# Altium integrated library microbuilder.IntLib: 530 symbols (part 3 of 7)
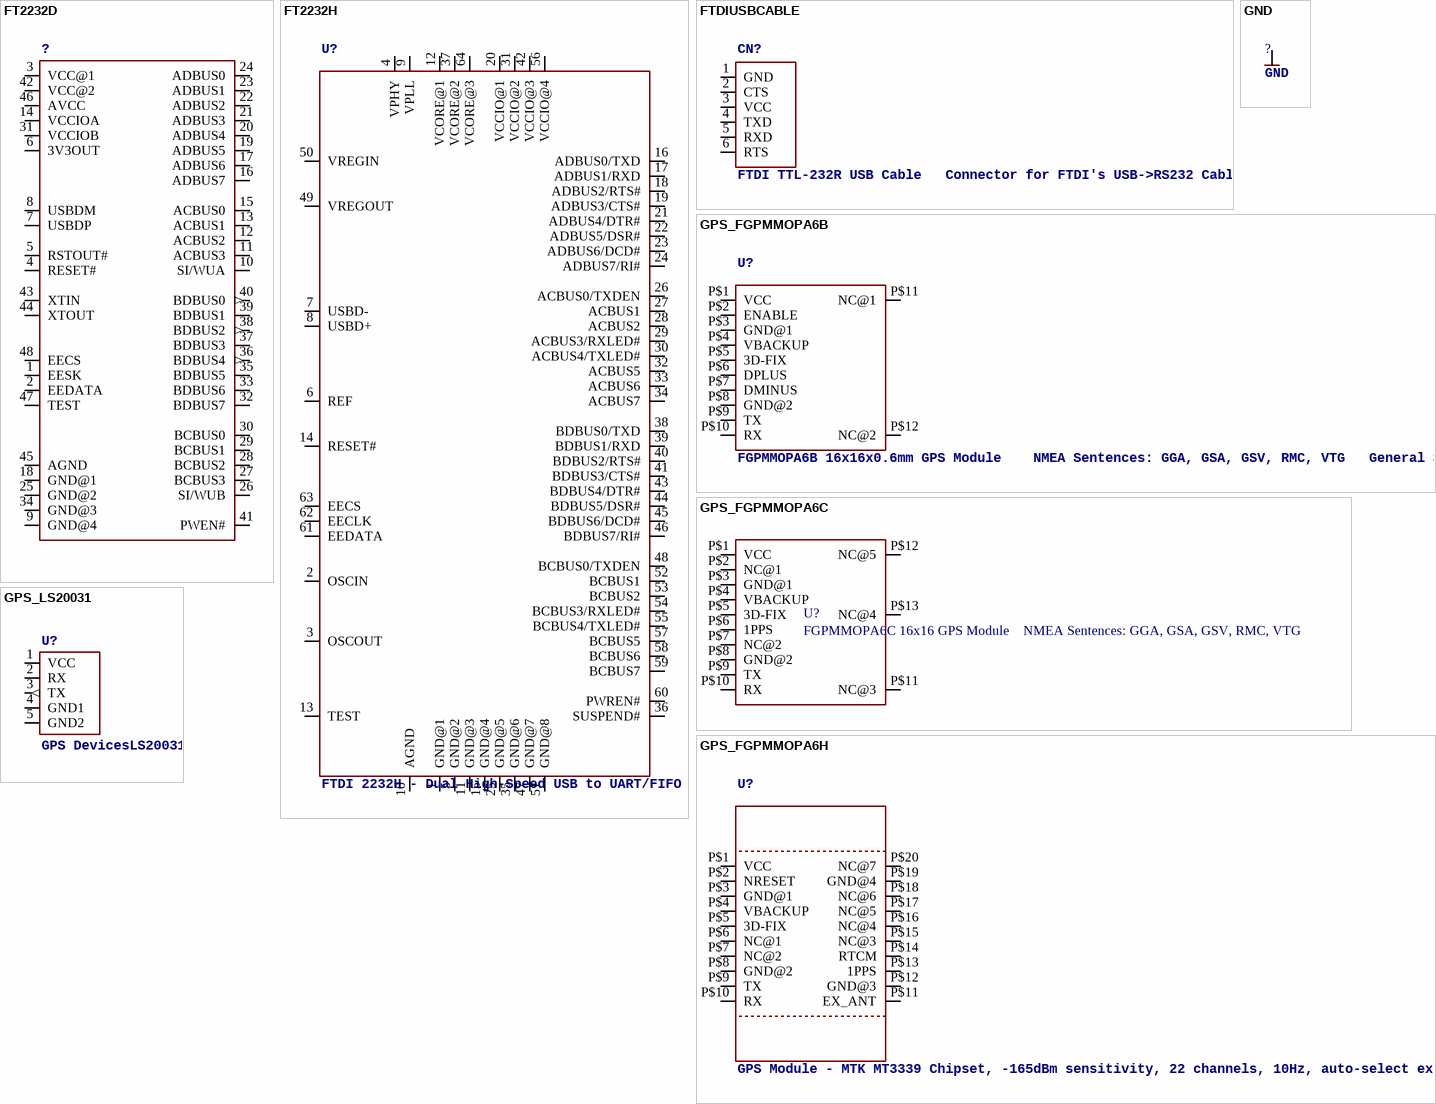
[diagram p54: symbols FT2232D to GPS_LS20031]

## FT2232H
designator U?, comment FTDI 2232H - Dual High-Speed USB to UART/FIFO
footprint LQFP64
pins: 1 GND@1, 2 OSCIN, 3 OSCOUT, 4 VPHY, 5 GND@2, 6 REF, 7 USBD-, 8 USBD+, 9 VPLL, 10 AGND, 11 GND@3, 12 VCORE@1, 13 TEST, 14 RESET#, 15 GND@4, 16 ADBUS0/TXD, 17 ADBUS1/RXD, 18 ADBUS2/RTS#, 19 ADBUS3/CTS#, 20 VCCIO@1, 21 ADBUS4/DTR#, 22 ADBUS5/DSR#, 23 ADBUS6/DCD#, 24 ADBUS7/RI#, 25 GND@5, 26 ACBUS0/TXDEN, 27 ACBUS1, 28 ACBUS2, 29 ACBUS3/RXLED#, 30 ACBUS4/TXLED#, 31 VCCIO@2, 32 ACBUS5, 33 ACBUS6, 34 ACBUS7, 35 GND@6, 36 SUSPEND#, 37 VCORE@2, 38 BDBUS0/TXD, 39 BDBUS1/RXD, 40 BDBUS2/RTS#, 41 BDBUS3/CTS#, 42 VCCIO@3, 43 BDBUS4/DTR#, 44 BDBUS5/DSR#, 45 BDBUS6/DCD#, 46 BDBUS7/RI#, 47 GND@7, 48 BCBUS0/TXDEN, 49 VREGOUT, 50 VREGIN, 51 GND@8, 52 BCBUS1, 53 BCBUS2, 54 BCBUS3/RXLED#, 55 BCBUS4/TXLED#, 56 VCCIO@4, 57 BCBUS5, 58 BCBUS6, 59 BCBUS7, 60 PWREN#, 61 EEDATA, 62 EECLK, 63 EECS, 64 VCORE@3

## FTDIUSBCABLE
designator CN?, comment FTDI TTL-232R USB Cable   Connector for FTDI's USB->RS232 Cable
footprint 1X06_ROUND
pins: 1 GND, 2 CTS, 3 VCC, 4 TXD, 5 RXD, 6 RTS

## GND
designator ?
pins: ?1 GND (oe)

## GPS_FGPMMOPA6B
designator U?, comment FGPMMOPA6B 16x16x0.6mm GPS Module    NMEA Sentences: GGA, GSA, GSV, RMC, VTG   General Specifications Chipset: MTK MT3329  Baud Rate: 9600bps (default)  Update Rate: 1Hz (default)  Cold Start: ~35s  Operating Temp: -40 to 85°C       DC Characteristics Supply Voltage: 3.2-5.0V  Backup Battery Voltage: 2.0-4.3V  Digital Logic (UART): 3.3V  I(Tracking): 42mA  I(Acquisition): 53mA  I(BackupBattery): 10uA
footprint FGPMMOPA6B
pins: P$1 VCC, P$2 ENABLE, P$3 GND@1, P$4 VBACKUP, P$5 3D-FIX, P$6 DPLUS, P$7 DMINUS, P$8 GND@2, P$9 TX, P$10 RX, P$11 NC@1, P$12 NC@2

## GPS_FGPMMOPA6C
designator U?, comment FGPMMOPA6C 16x16 GPS Module    NMEA Sentences: GGA, GSA, GSV, RMC, VTG
footprint FGPMMOPA6C
pins: P$1 VCC, P$2 NC@1, P$3 GND@1, P$4 VBACKUP, P$5 3D-FIX, P$6 1PPS, P$7 NC@2, P$8 GND@2, P$9 TX, P$10 RX, P$11 NC@3, P$12 NC@5, P$13 NC@4

## GPS_FGPMMOPA6H
designator U?, comment GPS Module - MTK MT3339 Chipset, -165dBm sensitivity, 22 channels, 10Hz, auto-select external antenna options
footprint FGPMMOPA6H
pins: P$1 VCC, P$2 NRESET, P$3 GND@1, P$4 VBACKUP, P$5 3D-FIX, P$6 NC@1, P$7 NC@2, P$8 GND@2, P$9 TX, P$10 RX, P$11 EX_ANT, P$12 GND@3, P$13 1PPS, P$14 RTCM, P$15 NC@3, P$16 NC@4, P$17 NC@5, P$18 NC@6, P$19 GND@4, P$20 NC@7

## GPS_LS20031
designator U?, comment GPS DevicesLS20031 - LS20031 10Hz UART GPS [Prod. ID] (Footprint for 0.1" header pins)
footprint HEADER_1X05
pins: 1 VCC (power), 2 RX, 3 TX (out), 4 GND1 (power), 5 GND2 (power)

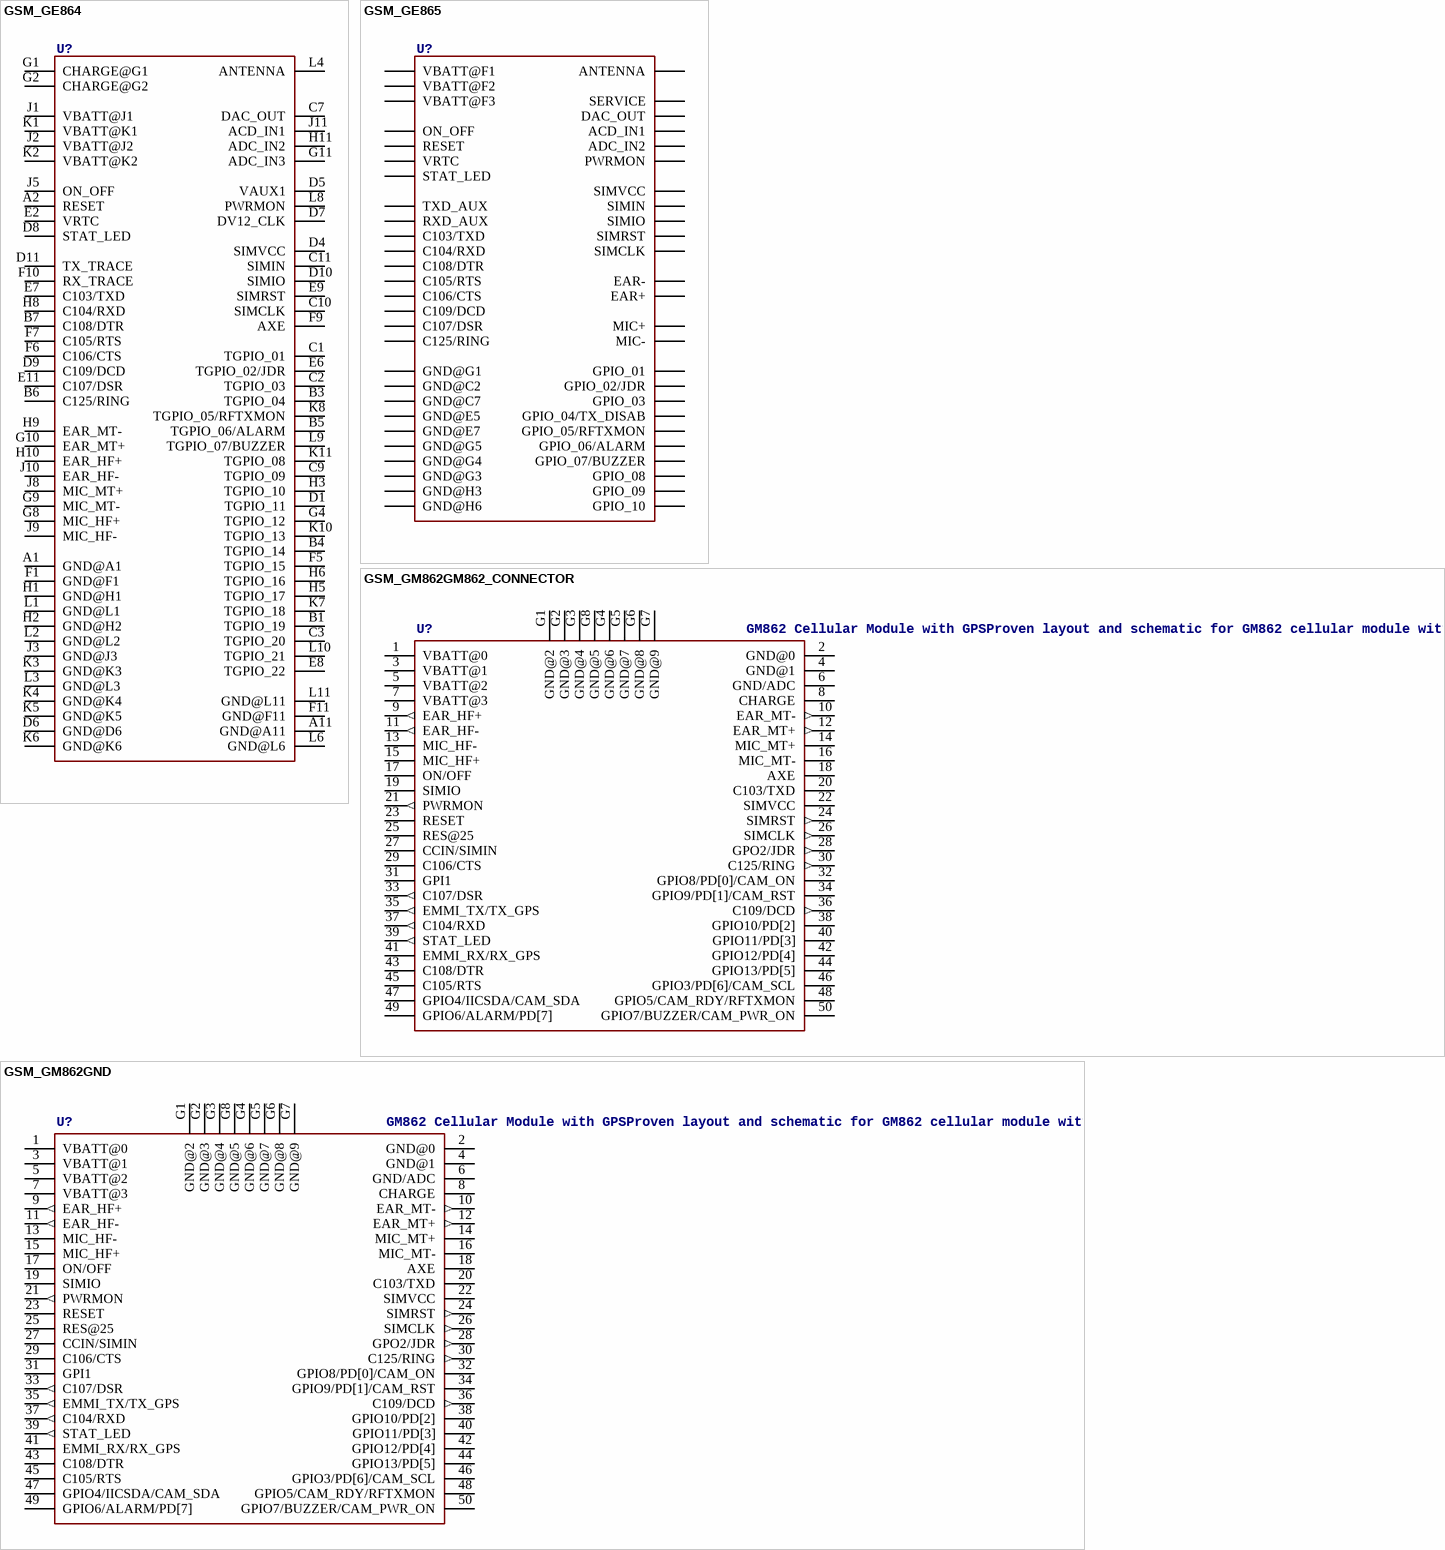
[diagram p21: symbols GSM_GE864 to GSM_GM862GND]

## GSM_GE864
designator U?
footprint GE864
pins: A1 GND@A1, A2 RESET, A11 GND@A11, B1 TGPIO_19, B3 TGPIO_04, B4 TGPIO_14, B5 TGPIO_06/ALARM, B6 C125/RING, B7 C108/DTR, C1 TGPIO_01, C2 TGPIO_03, C3 TGPIO_20, C7 DAC_OUT, C9 TGPIO_09, C10 SIMCLK, C11 SIMIN, D1 TGPIO_11, D4 SIMVCC, D5 VAUX1, D6 GND@D6, D7 DV12_CLK, D8 STAT_LED, D9 C109/DCD, D10 SIMIO, D11 TX_TRACE, E2 VRTC, E6 TGPIO_02/JDR, E7 C103/TXD, E8 TGPIO_22, E9 SIMRST, E11 C107/DSR, F1 GND@F1, F5 TGPIO_15, F6 C106/CTS, F7 C105/RTS, F9 AXE, F10 RX_TRACE, F11 GND@F11, G1 CHARGE@G1, G2 CHARGE@G2, G4 TGPIO_12, G8 MIC_HF+, G9 MIC_MT-, G10 EAR_MT+, G11 ADC_IN3, H1 GND@H1, H2 GND@H2, H3 TGPIO_10, H5 TGPIO_17, H6 TGPIO_16, H8 C104/RXD, H9 EAR_MT-, H10 EAR_HF+, H11 ADC_IN2, J1 VBATT@J1, J2 VBATT@J2, J3 GND@J3, J5 ON_OFF, J8 MIC_MT+, J9 MIC_HF-, J10 EAR_HF-, J11 ACD_IN1, K1 VBATT@K1, K2 VBATT@K2, K3 GND@K3, K4 GND@K4, K5 GND@K5, K6 GND@K6, K7 TGPIO_18, K8 TGPIO_05/RFTXMON, K10 TGPIO_13, K11 TGPIO_08, L1 GND@L1, L2 GND@L2, L3 GND@L3, L4 ANTENNA, L6 GND@L6, L8 PWRMON, L9 TGPIO_07/BUZZER, L10 TGPIO_21, L11 GND@L11

## GSM_GE865
designator U?
footprint GE865
pins: A1 C105/RTS, A2 C106/CTS, A3 C103/TXD, A4 C104/RXD, A5 SIMCLK, A6 SIMIO, A7 SIMVCC, A8 SIMRST, B1 ON_OFF, B2 C107/DSR, B3 C108/DTR, B4 C125/RING, B5 C109/DCD, B7 SIMIN, B8 MIC+, C1 RESET, C2 GND@C2, C7 GND@C7, C8 MIC-, D1 TXD_AUX, D2 GPIO_02/JDR, D3 GPIO_01, D4 GPIO_08, D8 EAR+, E1 RXD_AUX, E2 PWRMON, E3 GPIO_10, E4 GPIO_03, E5 GND@E5, E7 GND@E7, E8 EAR-, F1 VBATT@F1, F2 VBATT@F2, F3 VBATT@F3, F4 GPIO_09, F5 ACD_IN1, F6 ADC_IN2, G1 GND@G1, G2 GPIO_05/RFTXMON, G3 GND@G3, G4 GND@G4, G5 GND@G5, G6 GPIO_07/BUZZER, G7 DAC_OUT, G8 STAT_LED, H1 SERVICE, H2 VRTC, H3 GND@H3, H5 ANTENNA, H6 GND@H6, H7 GPIO_04/TX_DISAB, H8 GPIO_06/ALARM

## GSM_GM862GM862_CONNECTOR
designator U?, comment GM862 Cellular Module with GPSProven layout and schematic for GM862 cellular module with SiRF III GPS. Spark Fun Electronics SKU : CEL-07917    Footprint taken from the Sparkfun Eagle library (CC-SA license).
footprint GM862_CONNECTOR
pins: 1 VBATT@0 (power), 2 GND@0 (power), 3 VBATT@1 (power), 4 GND@1 (power), 5 VBATT@2 (power), 6 GND/ADC (power), 7 VBATT@3 (power), 8 CHARGE, 9 EAR_HF+ (out), 10 EAR_MT- (out), 11 EAR_HF- (out), 12 EAR_MT+ (out), 13 MIC_HF-, 14 MIC_MT+, 15 MIC_HF+, 16 MIC_MT-, 17 ON/OFF, 18 AXE, 19 SIMIO, 20 C103/TXD, 21 PWRMON (out), 22 SIMVCC (power), 23 RESET, 24 SIMRST (out), 25 RES@25, 26 SIMCLK (out), 27 CCIN/SIMIN, 28 GPO2/JDR (out), 29 C106/CTS, 30 C125/RING (out), 31 GPI1, 32 GPIO8/PD[0]/CAM_ON, 33 C107/DSR (out), 34 GPIO9/PD[1]/CAM_RST, 35 EMMI_TX/TX_GPS (out), 36 C109/DCD (out), 37 C104/RXD (out), 38 GPIO10/PD[2], 39 STAT_LED (out), 40 GPIO11/PD[3], 41 EMMI_RX/RX_GPS, 42 GPIO12/PD[4], 43 C108/DTR, 44 GPIO13/PD[5], 45 C105/RTS, 46 GPIO3/PD[6]/CAM_SCL, 47 GPIO4/IICSDA/CAM_SDA, 48 GPIO5/CAM_RDY/RFTXMON, 49 GPIO6/ALARM/PD[7], 50 GPIO7/BUZZER/CAM_PWR_ON, G1 GND@2 (power), G2 GND@3 (power), G3 GND@4 (power), G4 GND@6 (power), G5 GND@7 (power), G6 GND@8 (power), G7 GND@9 (power), G8 GND@5 (power)

## GSM_GM862GND
designator U?, comment GM862 Cellular Module with GPSProven layout and schematic for GM862 cellular module with SiRF III GPS. Spark Fun Electronics SKU : CEL-07917    Footprint taken from the Sparkfun Eagle library (CC-SA license).
footprint GM862
pins: 1 VBATT@0 (power), 2 GND@0 (power), 3 VBATT@1 (power), 4 GND@1 (power), 5 VBATT@2 (power), 6 GND/ADC (power), 7 VBATT@3 (power), 8 CHARGE, 9 EAR_HF+ (out), 10 EAR_MT- (out), 11 EAR_HF- (out), 12 EAR_MT+ (out), 13 MIC_HF-, 14 MIC_MT+, 15 MIC_HF+, 16 MIC_MT-, 17 ON/OFF, 18 AXE, 19 SIMIO, 20 C103/TXD, 21 PWRMON (out), 22 SIMVCC (power), 23 RESET, 24 SIMRST (out), 25 RES@25, 26 SIMCLK (out), 27 CCIN/SIMIN, 28 GPO2/JDR (out), 29 C106/CTS, 30 C125/RING (out), 31 GPI1, 32 GPIO8/PD[0]/CAM_ON, 33 C107/DSR (out), 34 GPIO9/PD[1]/CAM_RST, 35 EMMI_TX/TX_GPS (out), 36 C109/DCD (out), 37 C104/RXD (out), 38 GPIO10/PD[2], 39 STAT_LED (out), 40 GPIO11/PD[3], 41 EMMI_RX/RX_GPS, 42 GPIO12/PD[4], 43 C108/DTR, 44 GPIO13/PD[5], 45 C105/RTS, 46 GPIO3/PD[6]/CAM_SCL, 47 GPIO4/IICSDA/CAM_SDA, 48 GPIO5/CAM_RDY/RFTXMON, 49 GPIO6/ALARM/PD[7], 50 GPIO7/BUZZER/CAM_PWR_ON, G1 GND@2 (power), G2 GND@3 (power), G3 GND@4 (power), G4 GND@6 (power), G5 GND@7 (power), G6 GND@8 (power), G7 GND@9 (power), G8 GND@5 (power)

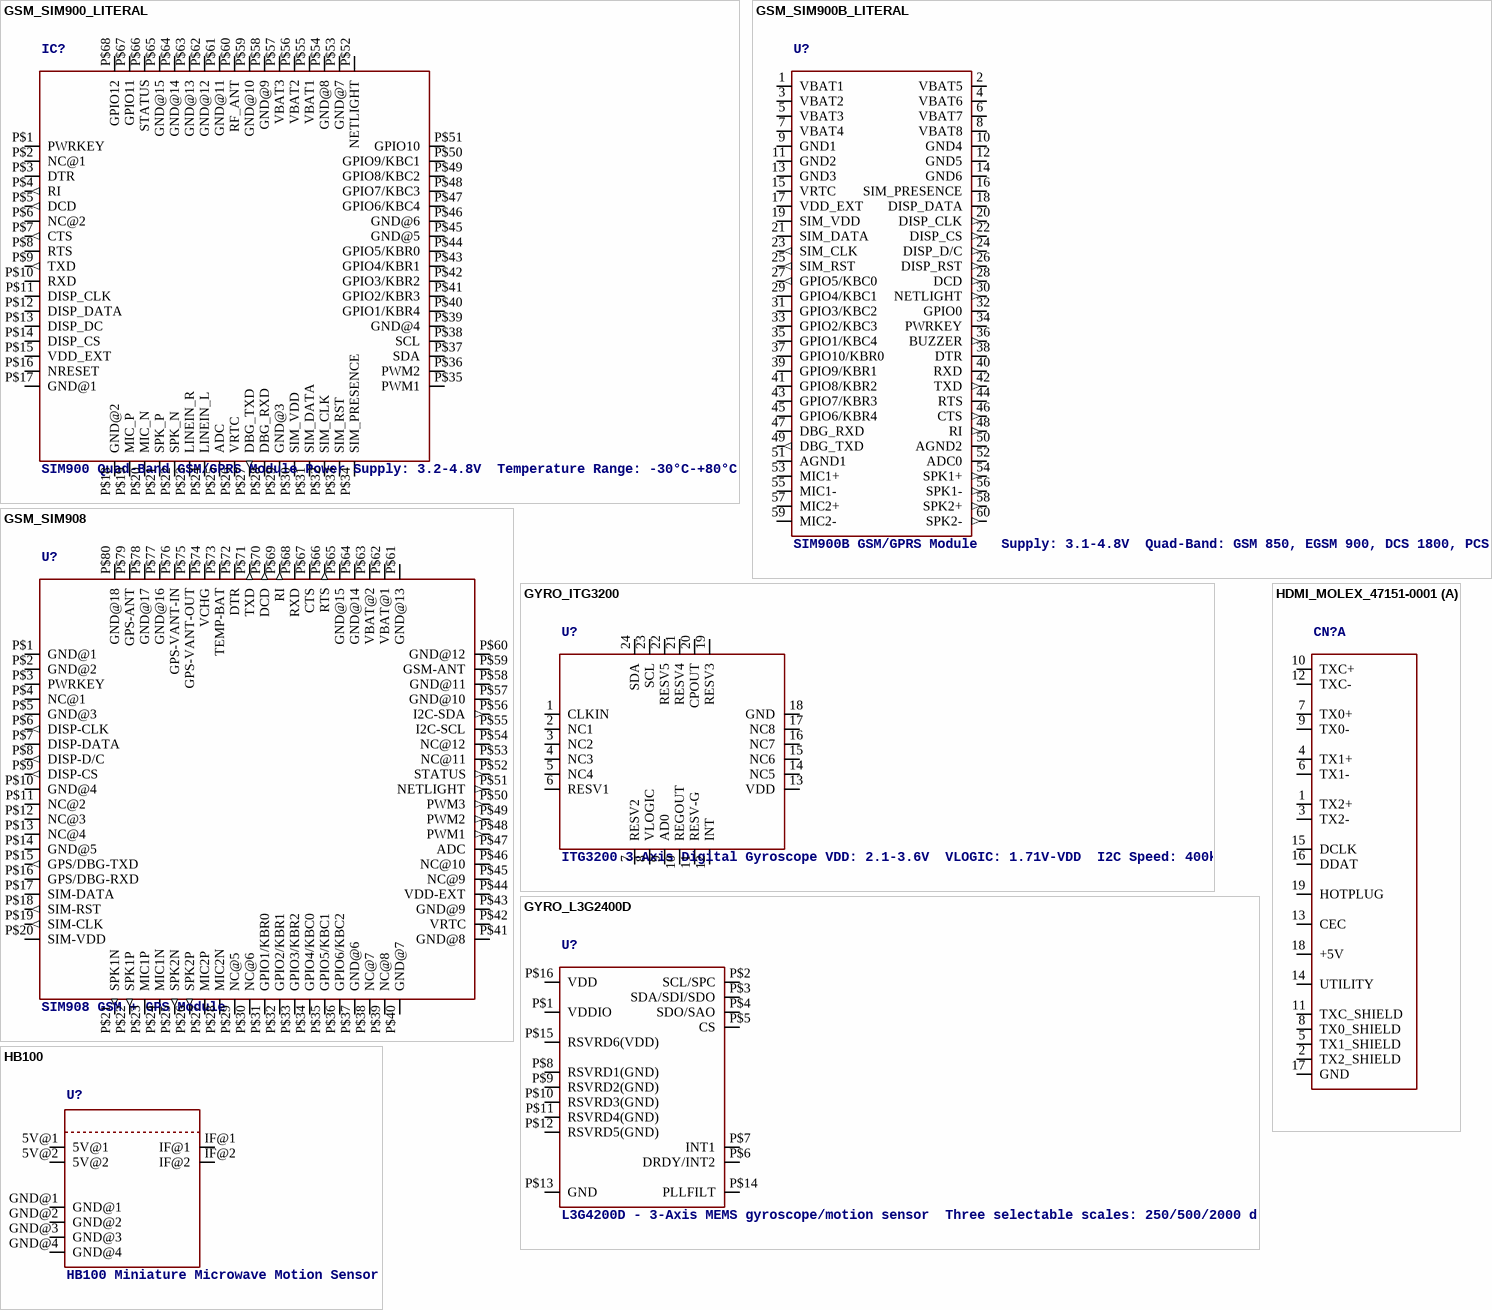
[diagram p22: symbols GSM_SIM900_LITERAL to HDMI_MOLEX_47151-0001]

## GSM_SIM900_LITERAL
designator IC?, comment SIM900 Quad-Band GSM/GPRS Module Power Supply: 3.2-4.8V  Temperature Range: -30°C-+80°C  Bands: GSM 850, EGSM 900, DCS 1800, PCS 1900
footprint SIM900_SMT
pins: P$1 PWRKEY (power), P$2 NC@1, P$3 DTR, P$4 RI (out), P$5 DCD (out), P$6 NC@2, P$7 CTS (out), P$8 RTS, P$9 TXD (out), P$10 RXD, P$11 DISP_CLK, P$12 DISP_DATA, P$13 DISP_DC, P$14 DISP_CS, P$15 VDD_EXT, P$16 NRESET, P$17 GND@1 (power), P$18 GND@2 (power), P$19 MIC_P, P$20 MIC_N, P$21 SPK_P, P$22 SPK_N, P$23 LINEIN_R, P$24 LINEIN_L, P$25 ADC, P$26 VRTC (power), P$27 DBG_TXD (out), P$28 DBG_RXD, P$29 GND@3 (power), P$30 SIM_VDD (power), P$31 SIM_DATA, P$32 SIM_CLK, P$33 SIM_RST, P$34 SIM_PRESENCE, P$35 PWM1, P$36 PWM2, P$37 SDA, P$38 SCL, P$39 GND@4 (power), P$40 GPIO1/KBR4, P$41 GPIO2/KBR3, P$42 GPIO3/KBR2, P$43 GPIO4/KBR1, P$44 GPIO5/KBR0, P$45 GND@5 (power), P$46 GND@6 (power), P$47 GPIO6/KBC4, P$48 GPIO7/KBC3, P$49 GPIO8/KBC2, P$50 GPIO9/KBC1, P$51 GPIO10, P$52 NETLIGHT, P$53 GND@7 (power), P$54 GND@8 (power), P$55 VBAT1 (power), P$56 VBAT2 (power), P$57 VBAT3 (power), P$58 GND@9 (power), P$59 GND@10 (power), P$60 RF_ANT, P$61 GND@11 (power), P$62 GND@12 (power), P$63 GND@13 (power), P$64 GND@14 (power), P$65 GND@15 (power), P$66 STATUS, P$67 GPIO11 (power), P$68 GPIO12 (power)

## GSM_SIM900B_LITERAL
designator U?, comment SIM900B GSM/GPRS Module   Supply: 3.1-4.8V  Quad-Band: GSM 850, EGSM 900, DCS 1800, PCS 1900
footprint SIM900B_SMT
pins: 1 VBAT1 (power), 2 VBAT5 (power), 3 VBAT2 (power), 4 VBAT6 (power), 5 VBAT3 (power), 6 VBAT7 (power), 7 VBAT4 (power), 8 VBAT8 (power), 9 GND1 (power), 10 GND4 (power), 11 GND2 (power), 12 GND5 (power), 13 GND3 (power), 14 GND6 (power), 15 VRTC (power), 16 SIM_PRESENCE, 17 VDD_EXT (power), 18 DISP_DATA, 19 SIM_VDD (power), 20 DISP_CLK (out), 21 SIM_DATA, 22 DISP_CS (out), 23 SIM_CLK (out), 24 DISP_D/C (out), 25 SIM_RST (out), 26 DISP_RST (out), 27 GPIO5/KBC0 (out), 28 DCD (out), 29 GPIO4/KBC1, 30 NETLIGHT (out), 31 GPIO3/KBC2, 32 GPIO0, 33 GPIO2/KBC3, 34 PWRKEY, 35 GPIO1/KBC4, 36 BUZZER (out), 37 GPIO10/KBR0, 38 DTR, 39 GPIO9/KBR1, 40 RXD, 41 GPIO8/KBR2, 42 TXD (out), 43 GPIO7/KBR3, 44 RTS, 45 GPIO6/KBR4, 46 CTS (out), 47 DBG_RXD, 48 RI (out), 49 DBG_TXD (out), 50 AGND2 (power), 51 AGND1 (power), 52 ADC0, 53 MIC1+, 54 SPK1+ (out), 55 MIC1-, 56 SPK1- (out), 57 MIC2+, 58 SPK2+ (out), 59 MIC2-, 60 SPK2- (out)

## GSM_SIM908
designator U?, comment SIM908 GSM + GPS Module
footprint SIM908
pins: P$1 GND@1 (power), P$2 GND@2 (power), P$3 PWRKEY, P$4 NC@1, P$5 GND@3 (power), P$6 DISP-CLK (out), P$7 DISP-DATA, P$8 DISP-D/C (out), P$9 DISP-CS (out), P$10 GND@4 (power), P$11 NC@2, P$12 NC@3, P$13 NC@4, P$14 GND@5 (power), P$15 GPS/DBG-TXD (out), P$16 GPS/DBG-RXD, P$17 SIM-DATA, P$18 SIM-RST (out), P$19 SIM-CLK (out), P$20 SIM-VDD (power), P$21 SPK1N (out), P$22 SPK1P (out), P$23 MIC1P, P$24 MIC1N, P$25 SPK2N (out), P$26 SPK2P (out), P$27 MIC2P, P$28 MIC2N, P$29 NC@5, P$30 NC@6, P$31 GPIO1/KBR0, P$32 GPIO2/KBR1, P$33 GPIO3/KBR2, P$34 GPIO4/KBC0, P$35 GPIO5/KBC1, P$36 GPIO6/KBC2, P$37 GND@6 (power), P$38 NC@7, P$39 NC@8, P$40 GND@7 (power), P$41 GND@8 (power), P$42 VRTC (power), P$43 GND@9 (power), P$44 VDD-EXT (power), P$45 NC@9, P$46 NC@10, P$47 ADC, P$48 PWM1 (out), P$49 PWM2 (out), P$50 PWM3 (out), P$51 NETLIGHT (out), P$52 STATUS (out), P$53 NC@11, P$54 NC@12, P$55 I2C-SCL, P$56 I2C-SDA (out), P$57 GND@10 (power), P$58 GND@11 (power), P$59 GSM-ANT, P$60 GND@12 (power), P$61 GND@13 (power), P$62 VBAT@1 (power), P$63 VBAT@2 (power), P$64 GND@14 (power), P$65 GND@15 (power), P$66 RTS (out), P$67 CTS, P$68 RXD, P$69 RI (out), P$70 DCD (out), P$71 TXD (out), P$72 DTR, P$73 TEMP-BAT, P$74 VCHG (power), P$75 GPS-VANT-OUT (power), P$76 GPS-VANT-IN (power), P$77 GND@16 (power), P$78 GND@17 (power), P$79 GPS-ANT, P$80 GND@18 (power)

## GYRO_ITG3200
designator U?, comment ITG3200 3-Axis Digital Gyroscope VDD: 2.1-3.6V  VLOGIC: 1.71V-VDD  I2C Speed: 400kHz
footprint ITG3200_QFN24
pins: 1 CLKIN, 2 NC1, 3 NC2, 4 NC3, 5 NC4, 6 RESV1, 7 RESV2, 8 VLOGIC, 9 AD0, 10 REGOUT, 11 RESV-G, 12 INT, 13 VDD, 14 NC5, 15 NC6, 16 NC7, 17 NC8, 18 GND, 19 RESV3, 20 CPOUT, 21 RESV4, 22 RESV5, 23 SCL, 24 SDA

## GYRO_L3G2400D
designator U?, comment L3G4200D - 3-Axis MEMS gyroscope/motion sensor  Three selectable scales: 250/500/2000 dps  1²C/SPI Interface  16-bit data  8-bit temperature  VDD: 2.4-3.6V (IO 1.8V compatible)  -40°C-85°C
footprint L3G4200D_LGA16L
pins: P$1 VDDIO (power), P$2 SCL/SPC, P$3 SDA/SDI/SDO, P$4 SDO/SAO, P$5 CS, P$6 DRDY/INT2, P$7 INT1, P$8 RSVRD1(GND), P$9 RSVRD2(GND), P$10 RSVRD3(GND), P$11 RSVRD4(GND), P$12 RSVRD5(GND), P$13 GND, P$14 PLLFILT, P$15 RSVRD6(VDD), P$16 VDD

## HB100
designator U?, comment HB100 Miniature Microwave Motion Sensor
footprint HB100
pins: 5V@1, 5V@2, GND@1, GND@2, GND@3, GND@4, IF@1, IF@2

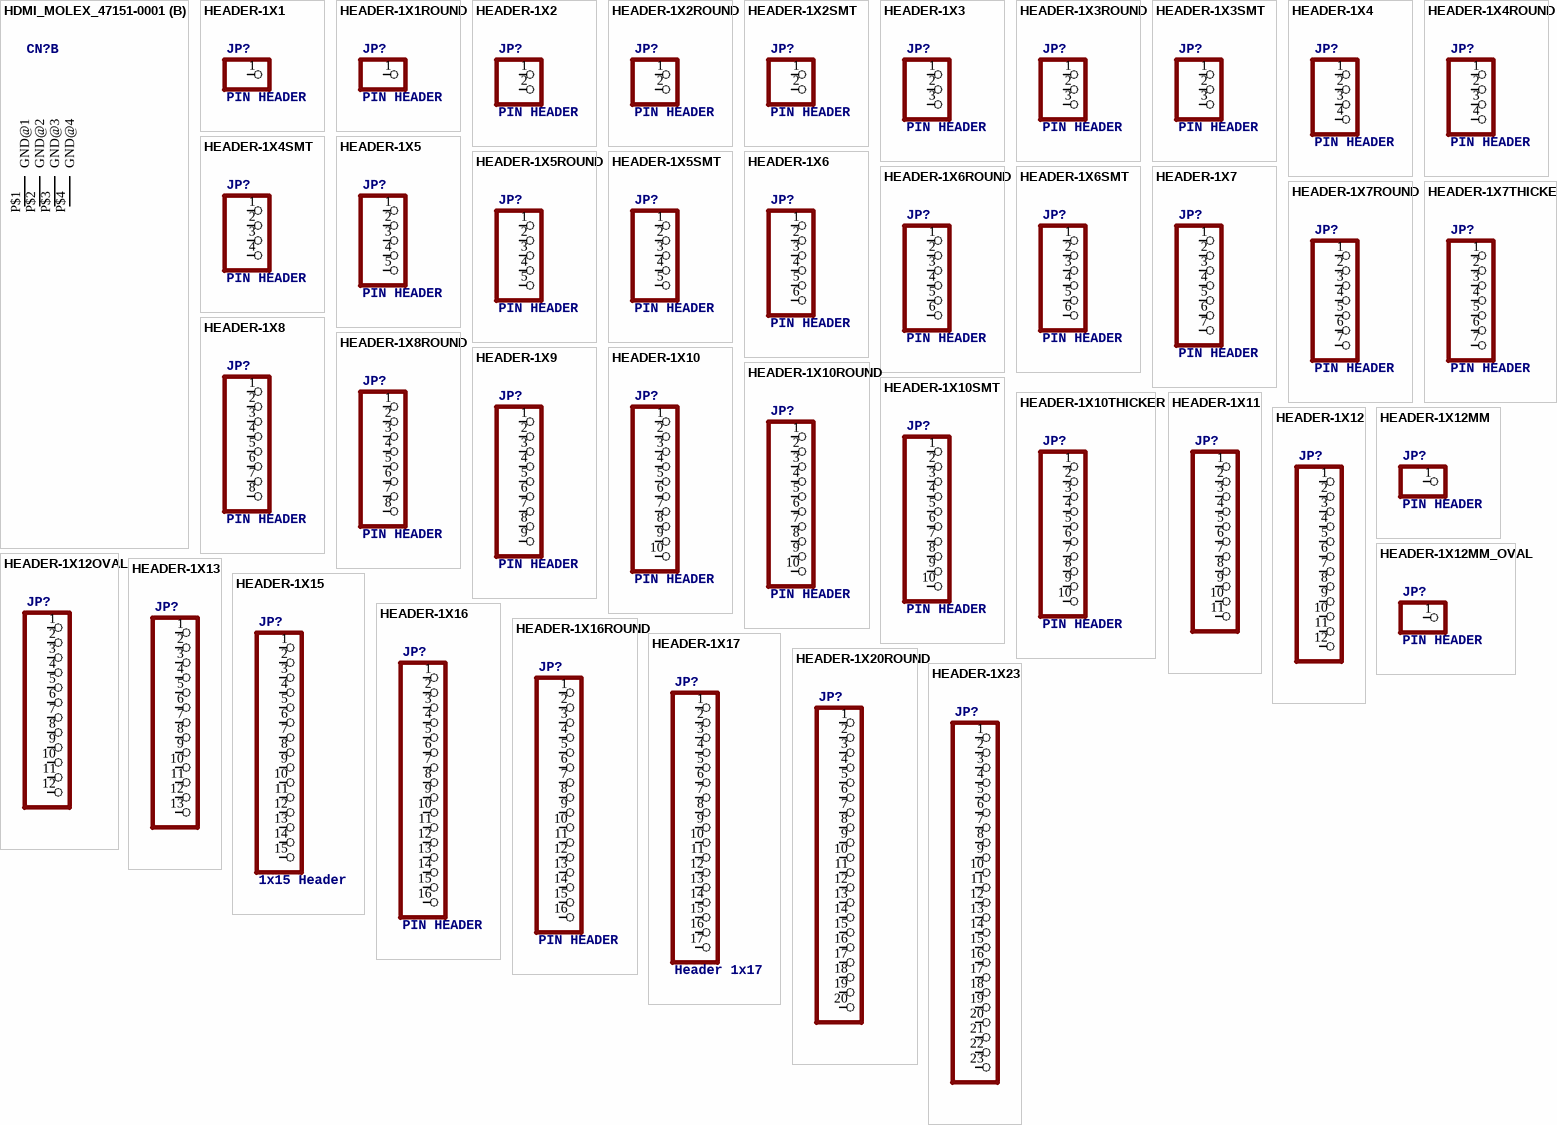
[diagram p23: symbols HDMI_MOLEX_47151-0001 to HEADER-1X23]

## HDMI_MOLEX_47151-0001
designator CN?
footprint HDMI_MOLEX_47151-0001
part A pins: 1 TX2+, 2 TX2_SHIELD (power), 3 TX2-, 4 TX1+, 5 TX1_SHIELD (power), 6 TX1-, 7 TX0+, 8 TX0_SHIELD (power), 9 TX0-, 10 TXC+, 11 TXC_SHIELD (power), 12 TXC-, 13 CEC, 14 UTILITY, 15 DCLK, 16 DDAT, 17 GND (power), 18 +5V (power), 19 HOTPLUG
part B pins: P$1 GND@1 (power), P$2 GND@2 (power), P$3 GND@3 (power), P$4 GND@4 (power)

## HEADER-1X1
designator JP?, comment PIN HEADER
footprint 1X01_OVAL
pins: 1

## HEADER-1X1ROUND
designator JP?, comment PIN HEADER
footprint 1X01_ROUND
pins: 1

## HEADER-1X2
designator JP?, comment PIN HEADER
footprint 1X02_OVAL
pins: 1, 2

## HEADER-1X2ROUND
designator JP?, comment PIN HEADER
footprint 1X02_ROUND
pins: 1, 2

## HEADER-1X2SMT
designator JP?, comment PIN HEADER
footprint 1X02_SMT
pins: 1, 2

## HEADER-1X3
designator JP?, comment PIN HEADER
footprint 1X03_OVAL
pins: 1, 2, 3

## HEADER-1X3ROUND
designator JP?, comment PIN HEADER
footprint 1X03_ROUND
pins: 1, 2, 3

## HEADER-1X3SMT
designator JP?, comment PIN HEADER
footprint 1X03_SMT
pins: 1, 2, 3

## HEADER-1X4
designator JP?, comment PIN HEADER
footprint 1X04_OVAL
pins: 1, 2, 3, 4

## HEADER-1X4ROUND
designator JP?, comment PIN HEADER
footprint 1X04_ROUND
pins: 1, 2, 3, 4

## HEADER-1X4SMT
designator JP?, comment PIN HEADER
footprint 1X04_SMT
pins: 1, 2, 3, 4

## HEADER-1X5
designator JP?, comment PIN HEADER
footprint 1X05_OVAL
pins: 1, 2, 3, 4, 5

## HEADER-1X5ROUND
designator JP?, comment PIN HEADER
footprint 1X05_ROUND
pins: 1, 2, 3, 4, 5

## HEADER-1X5SMT
designator JP?, comment PIN HEADER
footprint 1X05_SMT
pins: 1, 2, 3, 4, 5

## HEADER-1X6
designator JP?, comment PIN HEADER
footprint 1X06_OVAL
pins: 1, 2, 3, 4, 5, 6

## HEADER-1X6ROUND
designator JP?, comment PIN HEADER
footprint 1X06_ROUND
pins: 1, 2, 3, 4, 5, 6

## HEADER-1X6SMT
designator JP?, comment PIN HEADER
footprint 1X06_SMT
pins: 1, 2, 3, 4, 5, 6

## HEADER-1X7
designator JP?, comment PIN HEADER
footprint 1X07_OVAL
pins: 1, 2, 3, 4, 5, 6, 7

## HEADER-1X7ROUND
designator JP?, comment PIN HEADER
footprint 1X07_ROUND
pins: 1, 2, 3, 4, 5, 6, 7

## HEADER-1X7THICKER
designator JP?, comment PIN HEADER
footprint 1X07_ROUND_76
pins: 1, 2, 3, 4, 5, 6, 7

## HEADER-1X8
designator JP?, comment PIN HEADER
footprint 1X08_OVAL
pins: 1, 2, 3, 4, 5, 6, 7, 8

## HEADER-1X8ROUND
designator JP?, comment PIN HEADER
footprint 1X08_ROUND
pins: 1, 2, 3, 4, 5, 6, 7, 8

## HEADER-1X9
designator JP?, comment PIN HEADER
footprint 1X09_OVAL
pins: 1, 2, 3, 4, 5, 6, 7, 8, 9

## HEADER-1X10
designator JP?, comment PIN HEADER
footprint 1X10_OVAL
pins: 1, 2, 3, 4, 5, 6, 7, 8, 9, 10

## HEADER-1X10ROUND
designator JP?, comment PIN HEADER
footprint 1X10_ROUND
pins: 1, 2, 3, 4, 5, 6, 7, 8, 9, 10

## HEADER-1X10SMT
designator JP?, comment PIN HEADER
footprint 1X10_SMT
pins: 1, 2, 3, 4, 5, 6, 7, 8, 9, 10

## HEADER-1X10THICKER
designator JP?, comment PIN HEADER
footprint 1X10_ROUND_76
pins: 1, 2, 3, 4, 5, 6, 7, 8, 9, 10

## HEADER-1X11
designator JP?
footprint 1X11_ROUND
pins: 1, 2, 3, 4, 5, 6, 7, 8, 9, 10, 11

## HEADER-1X12
designator JP?
footprint 1X12_ROUND
pins: 1, 2, 3, 4, 5, 6, 7, 8, 9, 10, 11, 12

## HEADER-1X12MM
designator JP?, comment PIN HEADER
footprint 1X01_2MM
pins: 1

## HEADER-1X12MM_OVAL
designator JP?, comment PIN HEADER
footprint 1X01_2MM_OVAL
pins: 1

## HEADER-1X12OVAL
designator JP?
footprint 1X12_OVAL
pins: 1, 2, 3, 4, 5, 6, 7, 8, 9, 10, 11, 12

## HEADER-1X13
designator JP?
footprint 1X13_ROUND_70
pins: 1, 2, 3, 4, 5, 6, 7, 8, 9, 10, 11, 12, 13

## HEADER-1X15
designator JP?, comment 1x15 Header
footprint 1X15_ROUND_70
pins: 1, 2, 3, 4, 5, 6, 7, 8, 9, 10, 11, 12, 13, 14, 15

## HEADER-1X16
designator JP?, comment PIN HEADER
footprint 1X16_OVAL
pins: 1, 2, 3, 4, 5, 6, 7, 8, 9, 10, 11, 12, 13, 14, 15, 16

## HEADER-1X16ROUND
designator JP?, comment PIN HEADER
footprint 1X16_ROUND
pins: 1, 2, 3, 4, 5, 6, 7, 8, 9, 10, 11, 12, 13, 14, 15, 16

## HEADER-1X17
designator JP?, comment Header 1x17
footprint 1X17_ROUND70
pins: 1, 2, 3, 4, 5, 6, 7, 8, 9, 10, 11, 12, 13, 14, 15, 16, 17

## HEADER-1X20ROUND
designator JP?
footprint 1X20_ROUND
pins: 1, 2, 3, 4, 5, 6, 7, 8, 9, 10, 11, 12, 13, 14, 15, 16, 17, 18, 19, 20

## HEADER-1X23
designator JP?
footprint 1X23_ROUND_70MIL
pins: 1, 2, 3, 4, 5, 6, 7, 8, 9, 10, 11, 12, 13, 14, 15, 16, 17, 18, 19, 20, 21, 22, 23

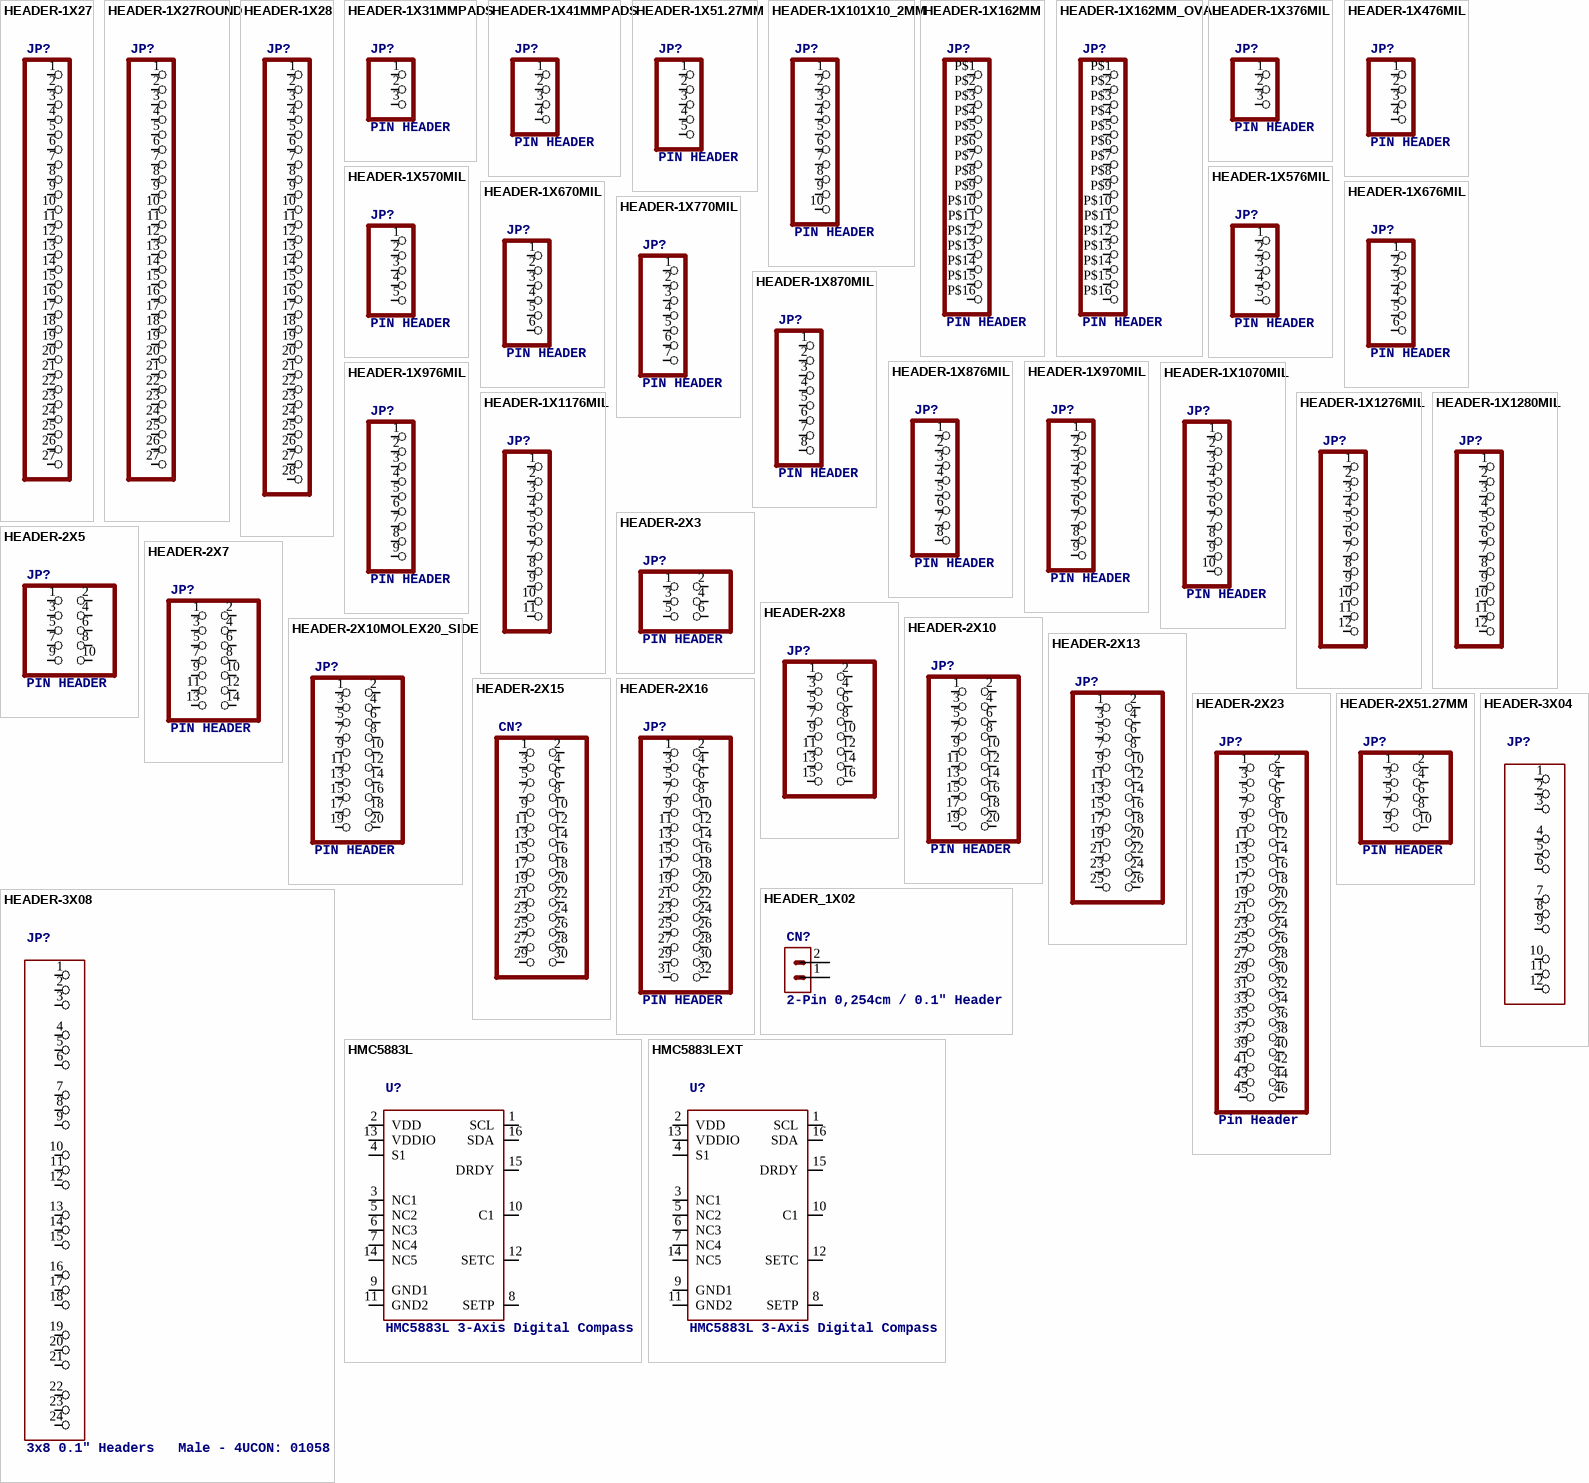
[diagram p24: symbols HEADER-1X27 to HMC5883LEXT]

## HEADER-1X27
designator JP?
footprint 1X27_OVAL
pins: 1, 2, 3, 4, 5, 6, 7, 8, 9, 10, 11, 12, 13, 14, 15, 16, 17, 18, 19, 20, 21, 22, 23, 24, 25, 26, 27

## HEADER-1X27ROUND
designator JP?
footprint 1X27_ROUND
pins: 1, 2, 3, 4, 5, 6, 7, 8, 9, 10, 11, 12, 13, 14, 15, 16, 17, 18, 19, 20, 21, 22, 23, 24, 25, 26, 27

## HEADER-1X28
designator JP?
footprint 1X28_OVAL
pins: 1, 2, 3, 4, 5, 6, 7, 8, 9, 10, 11, 12, 13, 14, 15, 16, 17, 18, 19, 20, 21, 22, 23, 24, 25, 26, 27, 28

## HEADER-1X31MMPADS
designator JP?, comment PIN HEADER
footprint 1X03_1.0MM
pins: 1, 2, 3

## HEADER-1X41MMPADS
designator JP?, comment PIN HEADER
footprint 1X04_1.0MM
pins: 1, 2, 3, 4

## HEADER-1X51.27MM
designator JP?, comment PIN HEADER
footprint 1X05_1.27MM
pins: 1, 2, 3, 4, 5

## HEADER-1X101X10_2MM
designator JP?, comment PIN HEADER
footprint 1X10_ROUND_2MM
pins: 1, 2, 3, 4, 5, 6, 7, 8, 9, 10

## HEADER-1X162MM
designator JP?, comment PIN HEADER
footprint 1X16_2MM
pins: P$1 1, P$2 2, P$3 3, P$4 4, P$5 5, P$6 6, P$7 7, P$8 8, P$9 9, P$10 10, P$11 11, P$12 12, P$13 13, P$14 14, P$15 15, P$16 16

## HEADER-1X162MM_OVAL
designator JP?, comment PIN HEADER
footprint 1X16_2MM_OVAL
pins: P$1 1, P$2 2, P$3 3, P$4 4, P$5 5, P$6 6, P$7 7, P$8 8, P$9 9, P$10 10, P$11 11, P$12 12, P$13 13, P$14 14, P$15 15, P$16 16

## HEADER-1X376MIL
designator JP?, comment PIN HEADER
footprint 1X03_ROUND_76
pins: 1, 2, 3

## HEADER-1X476MIL
designator JP?, comment PIN HEADER
footprint 1X04_ROUND_76
pins: 1, 2, 3, 4

## HEADER-1X570MIL
designator JP?, comment PIN HEADER
footprint 1X05_ROUND_70
pins: 1, 2, 3, 4, 5

## HEADER-1X576MIL
designator JP?, comment PIN HEADER
footprint 1X05_ROUND_76
pins: 1, 2, 3, 4, 5

## HEADER-1X670MIL
designator JP?, comment PIN HEADER
footprint 1X06_ROUND_70
pins: 1, 2, 3, 4, 5, 6

## HEADER-1X676MIL
designator JP?, comment PIN HEADER
footprint 1X06_ROUND_76
pins: 1, 2, 3, 4, 5, 6

## HEADER-1X770MIL
designator JP?, comment PIN HEADER
footprint 1X07_ROUND_70
pins: 1, 2, 3, 4, 5, 6, 7

## HEADER-1X870MIL
designator JP?, comment PIN HEADER
footprint 1X08_ROUND_70
pins: 1, 2, 3, 4, 5, 6, 7, 8

## HEADER-1X876MIL
designator JP?, comment PIN HEADER
footprint 1X08_ROUND_76
pins: 1, 2, 3, 4, 5, 6, 7, 8

## HEADER-1X970MIL
designator JP?, comment PIN HEADER
footprint 1X09_ROUND_70
pins: 1, 2, 3, 4, 5, 6, 7, 8, 9

## HEADER-1X976MIL
designator JP?, comment PIN HEADER
footprint 1X09_ROUND_76
pins: 1, 2, 3, 4, 5, 6, 7, 8, 9

## HEADER-1X1070MIL
designator JP?, comment PIN HEADER
footprint 1X10_ROUND70
pins: 1, 2, 3, 4, 5, 6, 7, 8, 9, 10

## HEADER-1X1176MIL
designator JP?
footprint 1X11_ROUND_76
pins: 1, 2, 3, 4, 5, 6, 7, 8, 9, 10, 11

## HEADER-1X1276MIL
designator JP?
footprint 1X12_ROUND_76MIL
pins: 1, 2, 3, 4, 5, 6, 7, 8, 9, 10, 11, 12

## HEADER-1X1280MIL
designator JP?
footprint 1X12_ROUND_80MIL
pins: 1, 2, 3, 4, 5, 6, 7, 8, 9, 10, 11, 12

## HEADER-2X3
designator JP?, comment PIN HEADER
footprint 2X03_ROUND_70MIL
pins: 1, 2, 3, 4, 5, 6

## HEADER-2X5
designator JP?, comment PIN HEADER
footprint 2X05
pins: 1, 2, 3, 4, 5, 6, 7, 8, 9, 10

## HEADER-2X7
designator JP?, comment PIN HEADER
footprint 2X07
pins: 1, 2, 3, 4, 5, 6, 7, 8, 9, 10, 11, 12, 13, 14

## HEADER-2X8
designator JP?
footprint 2X08
pins: 1, 2, 3, 4, 5, 6, 7, 8, 9, 10, 11, 12, 13, 14, 15, 16

## HEADER-2X10
designator JP?, comment PIN HEADER
footprint 2X10
pins: 1, 2, 3, 4, 5, 6, 7, 8, 9, 10, 11, 12, 13, 14, 15, 16, 17, 18, 19, 20

## HEADER-2X10MOLEX20_SIDE
designator JP?, comment PIN HEADER
footprint MOLEX20_RIGHTANGLE
pins: 1, 2, 3, 4, 5, 6, 7, 8, 9, 10, 11, 12, 13, 14, 15, 16, 17, 18, 19, 20

## HEADER-2X13
designator JP?
footprint 2X13
pins: 1, 2, 3, 4, 5, 6, 7, 8, 9, 10, 11, 12, 13, 14, 15, 16, 17, 18, 19, 20, 21, 22, 23, 24, 25, 26

## HEADER-2X15
designator CN?
footprint 2X15
pins: 1, 2, 3, 4, 5, 6, 7, 8, 9, 10, 11, 12, 13, 14, 15, 16, 17, 18, 19, 20, 21, 22, 23, 24, 25, 26, 27, 28, 29, 30

## HEADER-2X16
designator JP?, comment PIN HEADER
footprint 2X16
pins: 1, 2, 3, 4, 5, 6, 7, 8, 9, 10, 11, 12, 13, 14, 15, 16, 17, 18, 19, 20, 21, 22, 23, 24, 25, 26, 27, 28, 29, 30, 31, 32

## HEADER-2X23
designator JP?, comment Pin Header
footprint 2X23
pins: 1, 2, 3, 4, 5, 6, 7, 8, 9, 10, 11, 12, 13, 14, 15, 16, 17, 18, 19, 20, 21, 22, 23, 24, 25, 26, 27, 28, 29, 30, 31, 32, 33, 34, 35, 36, 37, 38, 39, 40, 41, 42, 43, 44, 45, 46

## HEADER-2X51.27MM
designator JP?, comment PIN HEADER
footprint 2X05_1.27MM_SMT
pins: 1, 2, 3, 4, 5, 6, 7, 8, 9, 10

## HEADER-3X04
designator JP?
footprint 3X04
pins: 1, 2, 3, 4, 5, 6, 7, 8, 9, 10, 11, 12

## HEADER-3X08
designator JP?, comment 3x8 0.1" Headers   Male - 4UCON: 01058
footprint 3X08
pins: 1, 2, 3, 4, 5, 6, 7, 8, 9, 10, 11, 12, 13, 14, 15, 16, 17, 18, 19, 20, 21, 22, 23, 24

## HEADER_1X02
designator CN?, comment 2-Pin 0,254cm / 0.1" Header
footprint HEADER_1X02
pins: 1, 2

## HMC5883L
designator U?, comment HMC5883L 3-Axis Digital Compass
footprint HMC5883L
pins: 1 SCL, 2 VDD, 3 NC1, 4 S1, 5 NC2, 6 NC3, 7 NC4, 8 SETP, 9 GND1, 10 C1, 11 GND2, 12 SETC, 13 VDDIO, 14 NC5, 15 DRDY, 16 SDA

## HMC5883LEXT
designator U?, comment HMC5883L 3-Axis Digital Compass
footprint HMC5883L_EXTENDED
pins: 1 SCL, 2 VDD, 3 NC1, 4 S1, 5 NC2, 6 NC3, 7 NC4, 8 SETP, 9 GND1, 10 C1, 11 GND2, 12 SETC, 13 VDDIO, 14 NC5, 15 DRDY, 16 SDA

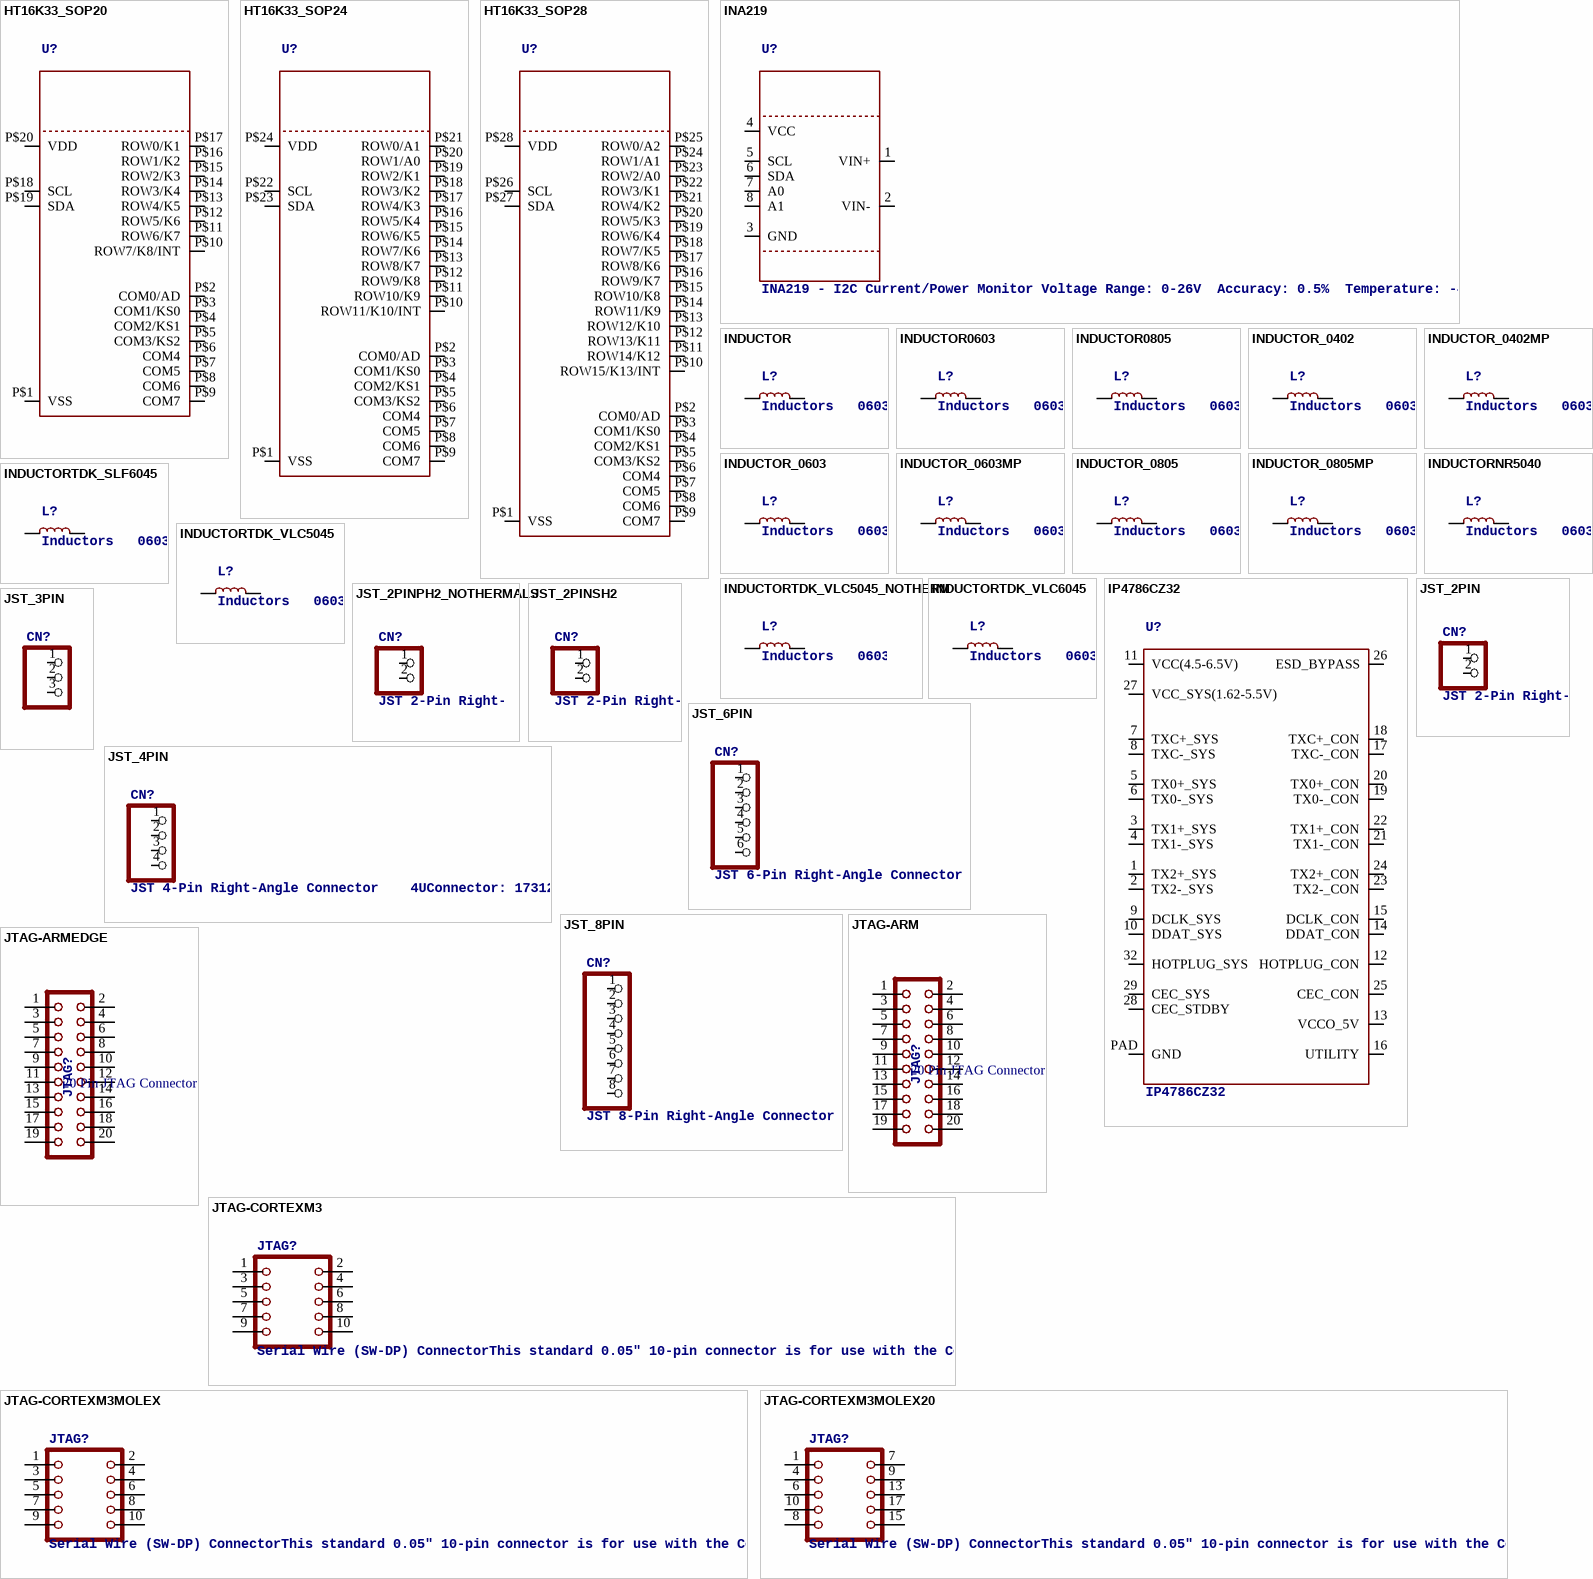
[diagram p25: symbols HT16K33_SOP20 to JTAG-CORTEXM3MOLEX20]

## HT16K33_SOP20
designator U?
footprint SOP20_300MIL
pins: P$1 VSS, P$2 COM0/AD, P$3 COM1/KS0, P$4 COM2/KS1, P$5 COM3/KS2, P$6 COM4, P$7 COM5, P$8 COM6, P$9 COM7, P$10 ROW7/K8/INT, P$11 ROW6/K7, P$12 ROW5/K6, P$13 ROW4/K5, P$14 ROW3/K4, P$15 ROW2/K3, P$16 ROW1/K2, P$17 ROW0/K1, P$18 SCL, P$19 SDA, P$20 VDD

## HT16K33_SOP24
designator U?
footprint SOP24_300MIL
pins: P$1 VSS, P$2 COM0/AD, P$3 COM1/KS0, P$4 COM2/KS1, P$5 COM3/KS2, P$6 COM4, P$7 COM5, P$8 COM6, P$9 COM7, P$10 ROW11/K10/INT, P$11 ROW10/K9, P$12 ROW9/K8, P$13 ROW8/K7, P$14 ROW7/K6, P$15 ROW6/K5, P$16 ROW5/K4, P$17 ROW4/K3, P$18 ROW3/K2, P$19 ROW2/K1, P$20 ROW1/A0, P$21 ROW0/A1, P$22 SCL, P$23 SDA, P$24 VDD

## HT16K33_SOP28
designator U?
footprint SOP28_300MIL
pins: P$1 VSS, P$2 COM0/AD, P$3 COM1/KS0, P$4 COM2/KS1, P$5 COM3/KS2, P$6 COM4, P$7 COM5, P$8 COM6, P$9 COM7, P$10 ROW15/K13/INT, P$11 ROW14/K12, P$12 ROW13/K11, P$13 ROW12/K10, P$14 ROW11/K9, P$15 ROW10/K8, P$16 ROW9/K7, P$17 ROW8/K6, P$18 ROW7/K5, P$19 ROW6/K4, P$20 ROW5/K3, P$21 ROW4/K2, P$22 ROW3/K1, P$23 ROW2/A0, P$24 ROW1/A1, P$25 ROW0/A2, P$26 SCL, P$27 SDA, P$28 VDD

## INA219
designator U?, comment INA219 - I2C Current/Power Monitor Voltage Range: 0-26V  Accuracy: 0.5%  Temperature: -40°C - 125°C
footprint SOT23-8
pins: 1 VIN+, 2 VIN-, 3 GND, 4 VCC, 5 SCL, 6 SDA, 7 A0, 8 A1

## INDUCTOR
designator L?, comment Inductors   0603: 10nH Ceramic Inductor - microwire antenna/RF (Digikey: 712-1434-2-ND)       0805: 560nH Ceramic Inductor - RF (Digikey: 553-1047-1-ND)  270nH Ceramic Inductor - Q = 40@250MHz, +-5%, 1 Ohm DC Resistance (Digikey: 535-10506-2-ND)       1007 (2518 Metric) SMT: 10µH 10% 250mOhm 820mA 1007 Inductor (Digikey: 587-2189-1-ND)  22µH 10% 500mOhm 580mA 1007 Inductor (Digikey: 587-2190-1-ND)  47µH 10% 950mOhm 420mA 1007 Inductor (Digikey: 587-2191-1-ND)  47µH 5% 100mOhm 1A 1008 Inductor (Digikey: 732-1816-1-ND)       5.0x5.0mm (Taiyo Yuden NR5040 Series) 6.8µH 20% 2.3A 64mOhm Inductor (Digikey: 587-2374-2-ND)       5.0x5.0mm (TDK VLC5045 Series) 4.7µH 20% 3.3A 34mOhm Inductor (Digikey: 445-6526-1-ND)  6.8µH 20% 2.7A 46mOhm Inductor (Digikey: 445-6527-1-ND)       6.0x6.0mm (TDK VLC6045 Series) 4.7µH 20% 3.8A 27mOhm Inductor (Digikey: 445-6538-2-ND)  6.8µH 20% 3A 41mOhm Inductor (Digikey: 445-6540-1-ND)  6.2µH 30% 2.2A 45mOhm Inductor (Digikey: SRR5028-6R2YCT-ND) - Not TDK VLC6045 but footprint should match       6.0x6.0mm (TDK SLF6045 Series) 6.8uH 30% 2A 33mOhm Inductor (Digikey: 445-4572-1-ND, Mouser: 810-SLF645T6R8N2R0PF)
footprint INDUCTOR_1007
pins: P$1 1, P$2 2

## INDUCTOR0603
designator L?, comment Inductors   0603: 10nH Ceramic Inductor - microwire antenna/RF (Digikey: 712-1434-2-ND)       0805: 560nH Ceramic Inductor - RF (Digikey: 553-1047-1-ND)  270nH Ceramic Inductor - Q = 40@250MHz, +-5%, 1 Ohm DC Resistance (Digikey: 535-10506-2-ND)       1007 (2518 Metric) SMT: 10µH 10% 250mOhm 820mA 1007 Inductor (Digikey: 587-2189-1-ND)  22µH 10% 500mOhm 580mA 1007 Inductor (Digikey: 587-2190-1-ND)  47µH 10% 950mOhm 420mA 1007 Inductor (Digikey: 587-2191-1-ND)  47µH 5% 100mOhm 1A 1008 Inductor (Digikey: 732-1816-1-ND)       5.0x5.0mm (Taiyo Yuden NR5040 Series) 6.8µH 20% 2.3A 64mOhm Inductor (Digikey: 587-2374-2-ND)       5.0x5.0mm (TDK VLC5045 Series) 4.7µH 20% 3.3A 34mOhm Inductor (Digikey: 445-6526-1-ND)  6.8µH 20% 2.7A 46mOhm Inductor (Digikey: 445-6527-1-ND)       6.0x6.0mm (TDK VLC6045 Series) 4.7µH 20% 3.8A 27mOhm Inductor (Digikey: 445-6538-2-ND)  6.8µH 20% 3A 41mOhm Inductor (Digikey: 445-6540-1-ND)  6.2µH 30% 2.2A 45mOhm Inductor (Digikey: SRR5028-6R2YCT-ND) - Not TDK VLC6045 but footprint should match       6.0x6.0mm (TDK SLF6045 Series) 6.8uH 30% 2A 33mOhm Inductor (Digikey: 445-4572-1-ND, Mouser: 810-SLF645T6R8N2R0PF)
footprint 0603
pins: 1, 2

## INDUCTOR0805
designator L?, comment Inductors   0603: 10nH Ceramic Inductor - microwire antenna/RF (Digikey: 712-1434-2-ND)       0805: 560nH Ceramic Inductor - RF (Digikey: 553-1047-1-ND)  270nH Ceramic Inductor - Q = 40@250MHz, +-5%, 1 Ohm DC Resistance (Digikey: 535-10506-2-ND)       1007 (2518 Metric) SMT: 10µH 10% 250mOhm 820mA 1007 Inductor (Digikey: 587-2189-1-ND)  22µH 10% 500mOhm 580mA 1007 Inductor (Digikey: 587-2190-1-ND)  47µH 10% 950mOhm 420mA 1007 Inductor (Digikey: 587-2191-1-ND)  47µH 5% 100mOhm 1A 1008 Inductor (Digikey: 732-1816-1-ND)       5.0x5.0mm (Taiyo Yuden NR5040 Series) 6.8µH 20% 2.3A 64mOhm Inductor (Digikey: 587-2374-2-ND)       5.0x5.0mm (TDK VLC5045 Series) 4.7µH 20% 3.3A 34mOhm Inductor (Digikey: 445-6526-1-ND)  6.8µH 20% 2.7A 46mOhm Inductor (Digikey: 445-6527-1-ND)       6.0x6.0mm (TDK VLC6045 Series) 4.7µH 20% 3.8A 27mOhm Inductor (Digikey: 445-6538-2-ND)  6.8µH 20% 3A 41mOhm Inductor (Digikey: 445-6540-1-ND)  6.2µH 30% 2.2A 45mOhm Inductor (Digikey: SRR5028-6R2YCT-ND) - Not TDK VLC6045 but footprint should match       6.0x6.0mm (TDK SLF6045 Series) 6.8uH 30% 2A 33mOhm Inductor (Digikey: 445-4572-1-ND, Mouser: 810-SLF645T6R8N2R0PF)
footprint 0805
pins: 1, 2

## INDUCTOR_0402
designator L?, comment Inductors   0603: 10nH Ceramic Inductor - microwire antenna/RF (Digikey: 712-1434-2-ND)       0805: 560nH Ceramic Inductor - RF (Digikey: 553-1047-1-ND)  270nH Ceramic Inductor - Q = 40@250MHz, +-5%, 1 Ohm DC Resistance (Digikey: 535-10506-2-ND)       1007 (2518 Metric) SMT: 10µH 10% 250mOhm 820mA 1007 Inductor (Digikey: 587-2189-1-ND)  22µH 10% 500mOhm 580mA 1007 Inductor (Digikey: 587-2190-1-ND)  47µH 10% 950mOhm 420mA 1007 Inductor (Digikey: 587-2191-1-ND)  47µH 5% 100mOhm 1A 1008 Inductor (Digikey: 732-1816-1-ND)       5.0x5.0mm (Taiyo Yuden NR5040 Series) 6.8µH 20% 2.3A 64mOhm Inductor (Digikey: 587-2374-2-ND)       5.0x5.0mm (TDK VLC5045 Series) 4.7µH 20% 3.3A 34mOhm Inductor (Digikey: 445-6526-1-ND)  6.8µH 20% 2.7A 46mOhm Inductor (Digikey: 445-6527-1-ND)       6.0x6.0mm (TDK VLC6045 Series) 4.7µH 20% 3.8A 27mOhm Inductor (Digikey: 445-6538-2-ND)  6.8µH 20% 3A 41mOhm Inductor (Digikey: 445-6540-1-ND)  6.2µH 30% 2.2A 45mOhm Inductor (Digikey: SRR5028-6R2YCT-ND) - Not TDK VLC6045 but footprint should match       6.0x6.0mm (TDK SLF6045 Series) 6.8uH 30% 2A 33mOhm Inductor (Digikey: 445-4572-1-ND, Mouser: 810-SLF645T6R8N2R0PF)
footprint _0402
pins: 1, 2

## INDUCTOR_0402MP
designator L?, comment Inductors   0603: 10nH Ceramic Inductor - microwire antenna/RF (Digikey: 712-1434-2-ND)       0805: 560nH Ceramic Inductor - RF (Digikey: 553-1047-1-ND)  270nH Ceramic Inductor - Q = 40@250MHz, +-5%, 1 Ohm DC Resistance (Digikey: 535-10506-2-ND)       1007 (2518 Metric) SMT: 10µH 10% 250mOhm 820mA 1007 Inductor (Digikey: 587-2189-1-ND)  22µH 10% 500mOhm 580mA 1007 Inductor (Digikey: 587-2190-1-ND)  47µH 10% 950mOhm 420mA 1007 Inductor (Digikey: 587-2191-1-ND)  47µH 5% 100mOhm 1A 1008 Inductor (Digikey: 732-1816-1-ND)       5.0x5.0mm (Taiyo Yuden NR5040 Series) 6.8µH 20% 2.3A 64mOhm Inductor (Digikey: 587-2374-2-ND)       5.0x5.0mm (TDK VLC5045 Series) 4.7µH 20% 3.3A 34mOhm Inductor (Digikey: 445-6526-1-ND)  6.8µH 20% 2.7A 46mOhm Inductor (Digikey: 445-6527-1-ND)       6.0x6.0mm (TDK VLC6045 Series) 4.7µH 20% 3.8A 27mOhm Inductor (Digikey: 445-6538-2-ND)  6.8µH 20% 3A 41mOhm Inductor (Digikey: 445-6540-1-ND)  6.2µH 30% 2.2A 45mOhm Inductor (Digikey: SRR5028-6R2YCT-ND) - Not TDK VLC6045 but footprint should match       6.0x6.0mm (TDK SLF6045 Series) 6.8uH 30% 2A 33mOhm Inductor (Digikey: 445-4572-1-ND, Mouser: 810-SLF645T6R8N2R0PF)
footprint _0402MP
pins: 1, 2

## INDUCTOR_0603
designator L?, comment Inductors   0603: 10nH Ceramic Inductor - microwire antenna/RF (Digikey: 712-1434-2-ND)       0805: 560nH Ceramic Inductor - RF (Digikey: 553-1047-1-ND)  270nH Ceramic Inductor - Q = 40@250MHz, +-5%, 1 Ohm DC Resistance (Digikey: 535-10506-2-ND)       1007 (2518 Metric) SMT: 10µH 10% 250mOhm 820mA 1007 Inductor (Digikey: 587-2189-1-ND)  22µH 10% 500mOhm 580mA 1007 Inductor (Digikey: 587-2190-1-ND)  47µH 10% 950mOhm 420mA 1007 Inductor (Digikey: 587-2191-1-ND)  47µH 5% 100mOhm 1A 1008 Inductor (Digikey: 732-1816-1-ND)       5.0x5.0mm (Taiyo Yuden NR5040 Series) 6.8µH 20% 2.3A 64mOhm Inductor (Digikey: 587-2374-2-ND)       5.0x5.0mm (TDK VLC5045 Series) 4.7µH 20% 3.3A 34mOhm Inductor (Digikey: 445-6526-1-ND)  6.8µH 20% 2.7A 46mOhm Inductor (Digikey: 445-6527-1-ND)       6.0x6.0mm (TDK VLC6045 Series) 4.7µH 20% 3.8A 27mOhm Inductor (Digikey: 445-6538-2-ND)  6.8µH 20% 3A 41mOhm Inductor (Digikey: 445-6540-1-ND)  6.2µH 30% 2.2A 45mOhm Inductor (Digikey: SRR5028-6R2YCT-ND) - Not TDK VLC6045 but footprint should match       6.0x6.0mm (TDK SLF6045 Series) 6.8uH 30% 2A 33mOhm Inductor (Digikey: 445-4572-1-ND, Mouser: 810-SLF645T6R8N2R0PF)
footprint _0603
pins: 1, 2

## INDUCTOR_0603MP
designator L?, comment Inductors   0603: 10nH Ceramic Inductor - microwire antenna/RF (Digikey: 712-1434-2-ND)       0805: 560nH Ceramic Inductor - RF (Digikey: 553-1047-1-ND)  270nH Ceramic Inductor - Q = 40@250MHz, +-5%, 1 Ohm DC Resistance (Digikey: 535-10506-2-ND)       1007 (2518 Metric) SMT: 10µH 10% 250mOhm 820mA 1007 Inductor (Digikey: 587-2189-1-ND)  22µH 10% 500mOhm 580mA 1007 Inductor (Digikey: 587-2190-1-ND)  47µH 10% 950mOhm 420mA 1007 Inductor (Digikey: 587-2191-1-ND)  47µH 5% 100mOhm 1A 1008 Inductor (Digikey: 732-1816-1-ND)       5.0x5.0mm (Taiyo Yuden NR5040 Series) 6.8µH 20% 2.3A 64mOhm Inductor (Digikey: 587-2374-2-ND)       5.0x5.0mm (TDK VLC5045 Series) 4.7µH 20% 3.3A 34mOhm Inductor (Digikey: 445-6526-1-ND)  6.8µH 20% 2.7A 46mOhm Inductor (Digikey: 445-6527-1-ND)       6.0x6.0mm (TDK VLC6045 Series) 4.7µH 20% 3.8A 27mOhm Inductor (Digikey: 445-6538-2-ND)  6.8µH 20% 3A 41mOhm Inductor (Digikey: 445-6540-1-ND)  6.2µH 30% 2.2A 45mOhm Inductor (Digikey: SRR5028-6R2YCT-ND) - Not TDK VLC6045 but footprint should match       6.0x6.0mm (TDK SLF6045 Series) 6.8uH 30% 2A 33mOhm Inductor (Digikey: 445-4572-1-ND, Mouser: 810-SLF645T6R8N2R0PF)
footprint _0603MP
pins: 1, 2

## INDUCTOR_0805
designator L?, comment Inductors   0603: 10nH Ceramic Inductor - microwire antenna/RF (Digikey: 712-1434-2-ND)       0805: 560nH Ceramic Inductor - RF (Digikey: 553-1047-1-ND)  270nH Ceramic Inductor - Q = 40@250MHz, +-5%, 1 Ohm DC Resistance (Digikey: 535-10506-2-ND)       1007 (2518 Metric) SMT: 10µH 10% 250mOhm 820mA 1007 Inductor (Digikey: 587-2189-1-ND)  22µH 10% 500mOhm 580mA 1007 Inductor (Digikey: 587-2190-1-ND)  47µH 10% 950mOhm 420mA 1007 Inductor (Digikey: 587-2191-1-ND)  47µH 5% 100mOhm 1A 1008 Inductor (Digikey: 732-1816-1-ND)       5.0x5.0mm (Taiyo Yuden NR5040 Series) 6.8µH 20% 2.3A 64mOhm Inductor (Digikey: 587-2374-2-ND)       5.0x5.0mm (TDK VLC5045 Series) 4.7µH 20% 3.3A 34mOhm Inductor (Digikey: 445-6526-1-ND)  6.8µH 20% 2.7A 46mOhm Inductor (Digikey: 445-6527-1-ND)       6.0x6.0mm (TDK VLC6045 Series) 4.7µH 20% 3.8A 27mOhm Inductor (Digikey: 445-6538-2-ND)  6.8µH 20% 3A 41mOhm Inductor (Digikey: 445-6540-1-ND)  6.2µH 30% 2.2A 45mOhm Inductor (Digikey: SRR5028-6R2YCT-ND) - Not TDK VLC6045 but footprint should match       6.0x6.0mm (TDK SLF6045 Series) 6.8uH 30% 2A 33mOhm Inductor (Digikey: 445-4572-1-ND, Mouser: 810-SLF645T6R8N2R0PF)
footprint _0805
pins: 1, 2

## INDUCTOR_0805MP
designator L?, comment Inductors   0603: 10nH Ceramic Inductor - microwire antenna/RF (Digikey: 712-1434-2-ND)       0805: 560nH Ceramic Inductor - RF (Digikey: 553-1047-1-ND)  270nH Ceramic Inductor - Q = 40@250MHz, +-5%, 1 Ohm DC Resistance (Digikey: 535-10506-2-ND)       1007 (2518 Metric) SMT: 10µH 10% 250mOhm 820mA 1007 Inductor (Digikey: 587-2189-1-ND)  22µH 10% 500mOhm 580mA 1007 Inductor (Digikey: 587-2190-1-ND)  47µH 10% 950mOhm 420mA 1007 Inductor (Digikey: 587-2191-1-ND)  47µH 5% 100mOhm 1A 1008 Inductor (Digikey: 732-1816-1-ND)       5.0x5.0mm (Taiyo Yuden NR5040 Series) 6.8µH 20% 2.3A 64mOhm Inductor (Digikey: 587-2374-2-ND)       5.0x5.0mm (TDK VLC5045 Series) 4.7µH 20% 3.3A 34mOhm Inductor (Digikey: 445-6526-1-ND)  6.8µH 20% 2.7A 46mOhm Inductor (Digikey: 445-6527-1-ND)       6.0x6.0mm (TDK VLC6045 Series) 4.7µH 20% 3.8A 27mOhm Inductor (Digikey: 445-6538-2-ND)  6.8µH 20% 3A 41mOhm Inductor (Digikey: 445-6540-1-ND)  6.2µH 30% 2.2A 45mOhm Inductor (Digikey: SRR5028-6R2YCT-ND) - Not TDK VLC6045 but footprint should match       6.0x6.0mm (TDK SLF6045 Series) 6.8uH 30% 2A 33mOhm Inductor (Digikey: 445-4572-1-ND, Mouser: 810-SLF645T6R8N2R0PF)
footprint _0805MP
pins: 1, 2

## INDUCTORNR5040
designator L?, comment Inductors   0603: 10nH Ceramic Inductor - microwire antenna/RF (Digikey: 712-1434-2-ND)       0805: 560nH Ceramic Inductor - RF (Digikey: 553-1047-1-ND)  270nH Ceramic Inductor - Q = 40@250MHz, +-5%, 1 Ohm DC Resistance (Digikey: 535-10506-2-ND)       1007 (2518 Metric) SMT: 10µH 10% 250mOhm 820mA 1007 Inductor (Digikey: 587-2189-1-ND)  22µH 10% 500mOhm 580mA 1007 Inductor (Digikey: 587-2190-1-ND)  47µH 10% 950mOhm 420mA 1007 Inductor (Digikey: 587-2191-1-ND)  47µH 5% 100mOhm 1A 1008 Inductor (Digikey: 732-1816-1-ND)       5.0x5.0mm (Taiyo Yuden NR5040 Series) 6.8µH 20% 2.3A 64mOhm Inductor (Digikey: 587-2374-2-ND)       5.0x5.0mm (TDK VLC5045 Series) 4.7µH 20% 3.3A 34mOhm Inductor (Digikey: 445-6526-1-ND)  6.8µH 20% 2.7A 46mOhm Inductor (Digikey: 445-6527-1-ND)       6.0x6.0mm (TDK VLC6045 Series) 4.7µH 20% 3.8A 27mOhm Inductor (Digikey: 445-6538-2-ND)  6.8µH 20% 3A 41mOhm Inductor (Digikey: 445-6540-1-ND)  6.2µH 30% 2.2A 45mOhm Inductor (Digikey: SRR5028-6R2YCT-ND) - Not TDK VLC6045 but footprint should match       6.0x6.0mm (TDK SLF6045 Series) 6.8uH 30% 2A 33mOhm Inductor (Digikey: 445-4572-1-ND, Mouser: 810-SLF645T6R8N2R0PF)
footprint INDUCTOR_5X5MM_NR5040_NOTHERMALS
pins: P$1 1, P$2 2

## INDUCTORTDK_SLF6045
designator L?, comment Inductors   0603: 10nH Ceramic Inductor - microwire antenna/RF (Digikey: 712-1434-2-ND)       0805: 560nH Ceramic Inductor - RF (Digikey: 553-1047-1-ND)  270nH Ceramic Inductor - Q = 40@250MHz, +-5%, 1 Ohm DC Resistance (Digikey: 535-10506-2-ND)       1007 (2518 Metric) SMT: 10µH 10% 250mOhm 820mA 1007 Inductor (Digikey: 587-2189-1-ND)  22µH 10% 500mOhm 580mA 1007 Inductor (Digikey: 587-2190-1-ND)  47µH 10% 950mOhm 420mA 1007 Inductor (Digikey: 587-2191-1-ND)  47µH 5% 100mOhm 1A 1008 Inductor (Digikey: 732-1816-1-ND)       5.0x5.0mm (Taiyo Yuden NR5040 Series) 6.8µH 20% 2.3A 64mOhm Inductor (Digikey: 587-2374-2-ND)       5.0x5.0mm (TDK VLC5045 Series) 4.7µH 20% 3.3A 34mOhm Inductor (Digikey: 445-6526-1-ND)  6.8µH 20% 2.7A 46mOhm Inductor (Digikey: 445-6527-1-ND)       6.0x6.0mm (TDK VLC6045 Series) 4.7µH 20% 3.8A 27mOhm Inductor (Digikey: 445-6538-2-ND)  6.8µH 20% 3A 41mOhm Inductor (Digikey: 445-6540-1-ND)  6.2µH 30% 2.2A 45mOhm Inductor (Digikey: SRR5028-6R2YCT-ND) - Not TDK VLC6045 but footprint should match       6.0x6.0mm (TDK SLF6045 Series) 6.8uH 30% 2A 33mOhm Inductor (Digikey: 445-4572-1-ND, Mouser: 810-SLF645T6R8N2R0PF)
footprint INDUCTOR_6X6MM_TDK_SLF6045
pins: P$1 1, P$2 2

## INDUCTORTDK_VLC5045
designator L?, comment Inductors   0603: 10nH Ceramic Inductor - microwire antenna/RF (Digikey: 712-1434-2-ND)       0805: 560nH Ceramic Inductor - RF (Digikey: 553-1047-1-ND)  270nH Ceramic Inductor - Q = 40@250MHz, +-5%, 1 Ohm DC Resistance (Digikey: 535-10506-2-ND)       1007 (2518 Metric) SMT: 10µH 10% 250mOhm 820mA 1007 Inductor (Digikey: 587-2189-1-ND)  22µH 10% 500mOhm 580mA 1007 Inductor (Digikey: 587-2190-1-ND)  47µH 10% 950mOhm 420mA 1007 Inductor (Digikey: 587-2191-1-ND)  47µH 5% 100mOhm 1A 1008 Inductor (Digikey: 732-1816-1-ND)       5.0x5.0mm (Taiyo Yuden NR5040 Series) 6.8µH 20% 2.3A 64mOhm Inductor (Digikey: 587-2374-2-ND)       5.0x5.0mm (TDK VLC5045 Series) 4.7µH 20% 3.3A 34mOhm Inductor (Digikey: 445-6526-1-ND)  6.8µH 20% 2.7A 46mOhm Inductor (Digikey: 445-6527-1-ND)       6.0x6.0mm (TDK VLC6045 Series) 4.7µH 20% 3.8A 27mOhm Inductor (Digikey: 445-6538-2-ND)  6.8µH 20% 3A 41mOhm Inductor (Digikey: 445-6540-1-ND)  6.2µH 30% 2.2A 45mOhm Inductor (Digikey: SRR5028-6R2YCT-ND) - Not TDK VLC6045 but footprint should match       6.0x6.0mm (TDK SLF6045 Series) 6.8uH 30% 2A 33mOhm Inductor (Digikey: 445-4572-1-ND, Mouser: 810-SLF645T6R8N2R0PF)
footprint INDUCTOR_5X5MM_TDK_VLC5045
pins: P$1 1, P$2 2

## INDUCTORTDK_VLC5045_NOTHERM
designator L?, comment Inductors   0603: 10nH Ceramic Inductor - microwire antenna/RF (Digikey: 712-1434-2-ND)       0805: 560nH Ceramic Inductor - RF (Digikey: 553-1047-1-ND)  270nH Ceramic Inductor - Q = 40@250MHz, +-5%, 1 Ohm DC Resistance (Digikey: 535-10506-2-ND)       1007 (2518 Metric) SMT: 10µH 10% 250mOhm 820mA 1007 Inductor (Digikey: 587-2189-1-ND)  22µH 10% 500mOhm 580mA 1007 Inductor (Digikey: 587-2190-1-ND)  47µH 10% 950mOhm 420mA 1007 Inductor (Digikey: 587-2191-1-ND)  47µH 5% 100mOhm 1A 1008 Inductor (Digikey: 732-1816-1-ND)       5.0x5.0mm (Taiyo Yuden NR5040 Series) 6.8µH 20% 2.3A 64mOhm Inductor (Digikey: 587-2374-2-ND)       5.0x5.0mm (TDK VLC5045 Series) 4.7µH 20% 3.3A 34mOhm Inductor (Digikey: 445-6526-1-ND)  6.8µH 20% 2.7A 46mOhm Inductor (Digikey: 445-6527-1-ND)       6.0x6.0mm (TDK VLC6045 Series) 4.7µH 20% 3.8A 27mOhm Inductor (Digikey: 445-6538-2-ND)  6.8µH 20% 3A 41mOhm Inductor (Digikey: 445-6540-1-ND)  6.2µH 30% 2.2A 45mOhm Inductor (Digikey: SRR5028-6R2YCT-ND) - Not TDK VLC6045 but footprint should match       6.0x6.0mm (TDK SLF6045 Series) 6.8uH 30% 2A 33mOhm Inductor (Digikey: 445-4572-1-ND, Mouser: 810-SLF645T6R8N2R0PF)
footprint INDUCTOR_5X5MM_TDK_VLC5045_NOTHERMALS
pins: P$1 1, P$2 2

## INDUCTORTDK_VLC6045
designator L?, comment Inductors   0603: 10nH Ceramic Inductor - microwire antenna/RF (Digikey: 712-1434-2-ND)       0805: 560nH Ceramic Inductor - RF (Digikey: 553-1047-1-ND)  270nH Ceramic Inductor - Q = 40@250MHz, +-5%, 1 Ohm DC Resistance (Digikey: 535-10506-2-ND)       1007 (2518 Metric) SMT: 10µH 10% 250mOhm 820mA 1007 Inductor (Digikey: 587-2189-1-ND)  22µH 10% 500mOhm 580mA 1007 Inductor (Digikey: 587-2190-1-ND)  47µH 10% 950mOhm 420mA 1007 Inductor (Digikey: 587-2191-1-ND)  47µH 5% 100mOhm 1A 1008 Inductor (Digikey: 732-1816-1-ND)       5.0x5.0mm (Taiyo Yuden NR5040 Series) 6.8µH 20% 2.3A 64mOhm Inductor (Digikey: 587-2374-2-ND)       5.0x5.0mm (TDK VLC5045 Series) 4.7µH 20% 3.3A 34mOhm Inductor (Digikey: 445-6526-1-ND)  6.8µH 20% 2.7A 46mOhm Inductor (Digikey: 445-6527-1-ND)       6.0x6.0mm (TDK VLC6045 Series) 4.7µH 20% 3.8A 27mOhm Inductor (Digikey: 445-6538-2-ND)  6.8µH 20% 3A 41mOhm Inductor (Digikey: 445-6540-1-ND)  6.2µH 30% 2.2A 45mOhm Inductor (Digikey: SRR5028-6R2YCT-ND) - Not TDK VLC6045 but footprint should match       6.0x6.0mm (TDK SLF6045 Series) 6.8uH 30% 2A 33mOhm Inductor (Digikey: 445-4572-1-ND, Mouser: 810-SLF645T6R8N2R0PF)
footprint INDUCTOR_6X6MM_TDK_VLC6045
pins: P$1 1, P$2 2

## IP4786CZ32
designator U?
footprint HVQFN32
pins: 1 TX2+_SYS, 2 TX2-_SYS, 3 TX1+_SYS, 4 TX1-_SYS, 5 TX0+_SYS, 6 TX0-_SYS, 7 TXC+_SYS, 8 TXC-_SYS, 9 DCLK_SYS, 10 DDAT_SYS, 11 VCC(4.5-6.5V), 12 HOTPLUG_CON, 13 VCCO_5V, 14 DDAT_CON, 15 DCLK_CON, 16 UTILITY, 17 TXC-_CON, 18 TXC+_CON, 19 TX0-_CON, 20 TX0+_CON, 21 TX1-_CON, 22 TX1+_CON, 23 TX2-_CON, 24 TX2+_CON, 25 CEC_CON, 26 ESD_BYPASS, 27 VCC_SYS(1.62-5.5V), 28 CEC_STDBY, 29 CEC_SYS, 32 HOTPLUG_SYS, PAD GND

## JST_2PIN
designator CN?, comment JST 2-Pin Right-Angle Connector  PH-Series - 4UConnector: 17311  SH-Series - 4UConnector: 07278
footprint JSTPH2
pins: 1, 2

## JST_2PINPH2_NOTHERMALS
designator CN?, comment JST 2-Pin Right-Angle Connector  PH-Series - 4UConnector: 17311  SH-Series - 4UConnector: 07278
footprint JSTPH2_NOTHERMALS
pins: 1, 2

## JST_2PINSH2
designator CN?, comment JST 2-Pin Right-Angle Connector  PH-Series - 4UConnector: 17311  SH-Series - 4UConnector: 07278
footprint JSTSH2
pins: 1, 2

## JST_3PIN
designator CN?
footprint JSTPH3
pins: 1, 2, 3

## JST_4PIN
designator CN?, comment JST 4-Pin Right-Angle Connector    4UConnector: 17312
footprint JSTPH4
pins: 1, 2, 3, 4

## JST_6PIN
designator CN?, comment JST 6-Pin Right-Angle Connector
footprint JSTPH6
pins: 1, 2, 3, 4, 5, 6

## JST_8PIN
designator CN?, comment JST 8-Pin Right-Angle Connector
footprint JSTPH8
pins: 1, 2, 3, 4, 5, 6, 7, 8

## JTAG-ARM
designator JTAG?, comment 20 Pin JTAG ConnectorFor use with ARM7, and ARM9.  Supported by some Cortex M3 boards with SWJ-DP interfaces (dual SWP/JTAG support).    4UConnector: 03556
footprint JTAG-ARM
pins: 1, 2, 3, 4, 5, 6, 7, 8, 9, 10, 11, 12, 13, 14, 15, 16, 17, 18, 19, 20

## JTAG-ARMEDGE
designator JTAG?, comment 20 Pin JTAG ConnectorFor use with ARM7, and ARM9.  Supported by some Cortex M3 boards with SWJ-DP interfaces (dual SWP/JTAG support).    4UConnector: 03556
footprint MOLEX20_RIGHTANGLE
pins: 1, 2, 3, 4, 5, 6, 7, 8, 9, 10, 11, 12, 13, 14, 15, 16, 17, 18, 19, 20

## JTAG-CORTEXM3
designator JTAG?, comment Serial Wire (SW-DP) ConnectorThis standard 0.05" 10-pin connector is for use with the Cortex M0/M3's native SWD (serial wire debugger) interface (SW-DP).  Some boards support a 20-pin combined JTAG+SWD connector (SWJ-DP), such as the LPC1700 family, but many smaller devices only work with SWD which typically use the smaller 10-pin SW-DP connecter (the LPC1300 family, for example, only supports SWD).    2x05 1.27mm/0.05" Connector: This is the standard SMT connector defined by ARM for all Cortex devices, and should be used in most situations and for forward-compatibility since any new devices coming to market will likely use this connector.   MOLEX 10 Pin 0.1" Connector: This 0.1" 10 pin connector has the same pin layout as the standard 0.05" connector, but is easier to work with if you are using standard jumper wires or custom cables to connect your SWD hardware.   MOLEX 20 Pin 0.1" Connector: This 0.1" 20 pin connector is the same model used for ARM7/ARM9 JTAG debuggers, but is connected to match the pins on the Segger J-Link for ARM (which supports both JTAG and SWD debugging).   See the following document from ARM for more information on Cortex M3 Debug Connectors: http://infocenter.arm.com/help/topic/com.arm.doc.faqs/attached/13634/cortex_debug_connectors.pdf And the following page for an overview with images of the different connector types: http://www.keil.com/peripherals/coresight/connectors.asp
footprint 2X05_1.27MM_SMT
pins: 1, 2, 3, 4, 5, 6, 7, 8, 9, 10

## JTAG-CORTEXM3MOLEX
designator JTAG?, comment Serial Wire (SW-DP) ConnectorThis standard 0.05" 10-pin connector is for use with the Cortex M0/M3's native SWD (serial wire debugger) interface (SW-DP).  Some boards support a 20-pin combined JTAG+SWD connector (SWJ-DP), such as the LPC1700 family, but many smaller devices only work with SWD which typically use the smaller 10-pin SW-DP connecter (the LPC1300 family, for example, only supports SWD).    2x05 1.27mm/0.05" Connector: This is the standard SMT connector defined by ARM for all Cortex devices, and should be used in most situations and for forward-compatibility since any new devices coming to market will likely use this connector.   MOLEX 10 Pin 0.1" Connector: This 0.1" 10 pin connector has the same pin layout as the standard 0.05" connector, but is easier to work with if you are using standard jumper wires or custom cables to connect your SWD hardware.   MOLEX 20 Pin 0.1" Connector: This 0.1" 20 pin connector is the same model used for ARM7/ARM9 JTAG debuggers, but is connected to match the pins on the Segger J-Link for ARM (which supports both JTAG and SWD debugging).   See the following document from ARM for more information on Cortex M3 Debug Connectors: http://infocenter.arm.com/help/topic/com.arm.doc.faqs/attached/13634/cortex_debug_connectors.pdf And the following page for an overview with images of the different connector types: http://www.keil.com/peripherals/coresight/connectors.asp
footprint CORTEXM3_SWD10_MOLEX
pins: 1, 2, 3, 4, 5, 6, 7, 8, 9, 10

## JTAG-CORTEXM3MOLEX20
designator JTAG?, comment Serial Wire (SW-DP) ConnectorThis standard 0.05" 10-pin connector is for use with the Cortex M0/M3's native SWD (serial wire debugger) interface (SW-DP).  Some boards support a 20-pin combined JTAG+SWD connector (SWJ-DP), such as the LPC1700 family, but many smaller devices only work with SWD which typically use the smaller 10-pin SW-DP connecter (the LPC1300 family, for example, only supports SWD).    2x05 1.27mm/0.05" Connector: This is the standard SMT connector defined by ARM for all Cortex devices, and should be used in most situations and for forward-compatibility since any new devices coming to market will likely use this connector.   MOLEX 10 Pin 0.1" Connector: This 0.1" 10 pin connector has the same pin layout as the standard 0.05" connector, but is easier to work with if you are using standard jumper wires or custom cables to connect your SWD hardware.   MOLEX 20 Pin 0.1" Connector: This 0.1" 20 pin connector is the same model used for ARM7/ARM9 JTAG debuggers, but is connected to match the pins on the Segger J-Link for ARM (which supports both JTAG and SWD debugging).   See the following document from ARM for more information on Cortex M3 Debug Connectors: http://infocenter.arm.com/help/topic/com.arm.doc.faqs/attached/13634/cortex_debug_connectors.pdf And the following page for an overview with images of the different connector types: http://www.keil.com/peripherals/coresight/connectors.asp
footprint JTAG-ARM
pins: 1, 4 3, 6 5, 7 2, 8 9, 9 4, 10 7, 13 6, 15 10, 17 8

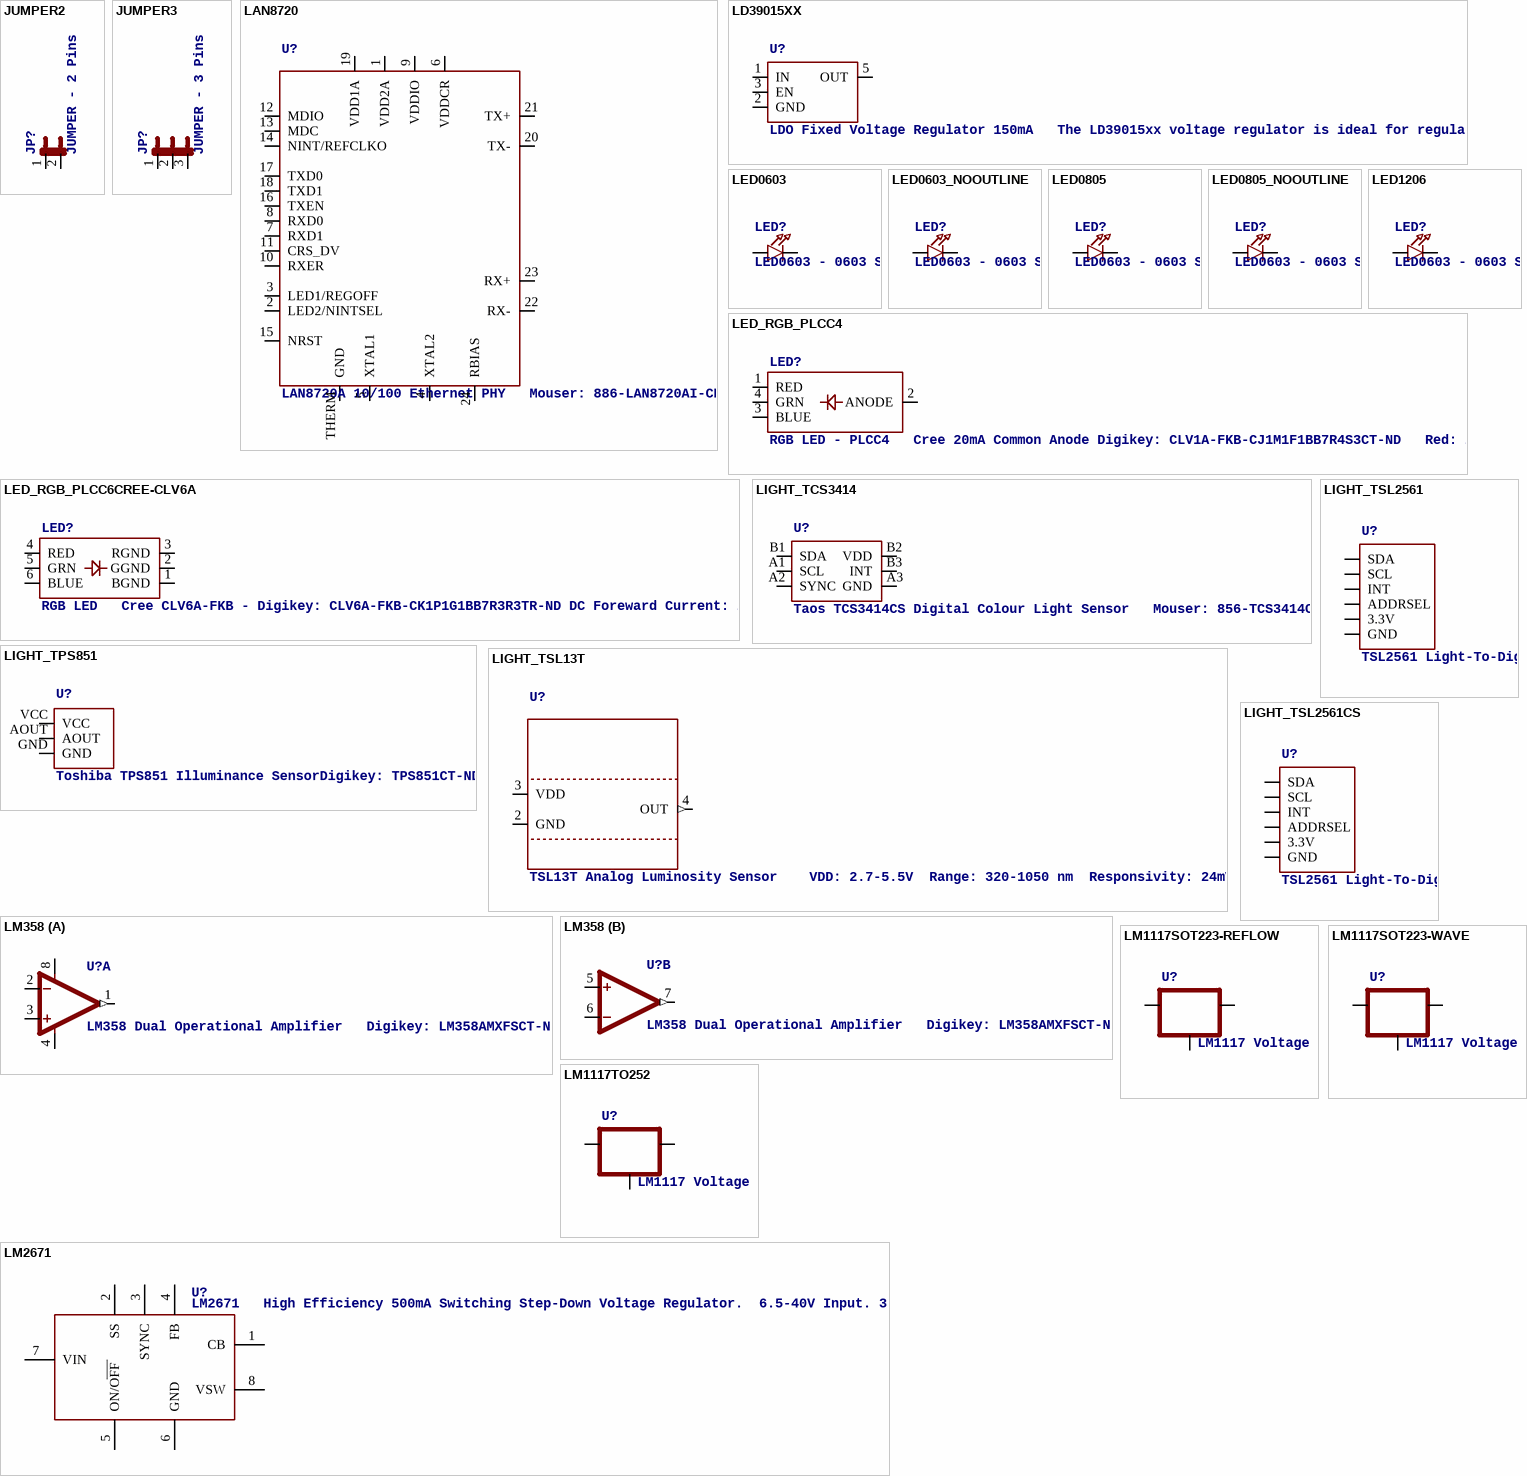
[diagram p26: symbols JUMPER2 to LM2671]

## JUMPER2
designator JP?, comment JUMPER - 2 Pins
footprint JUMPER2
pins: 1, 2

## JUMPER3
designator JP?, comment JUMPER - 3 Pins
footprint JUMPER3
pins: 1, 2, 3

## LAN8720
designator U?, comment LAN8720A 10/100 Ethernet PHY   Mouser: 886-LAN8720AI-CP
footprint QFN24_4MM
pins: 1 VDD2A, 2 LED2/NINTSEL, 3 LED1/REGOFF, 4 XTAL2, 5 XTAL1, 6 VDDCR, 7 RXD1, 8 RXD0, 9 VDDIO, 10 RXER, 11 CRS_DV, 12 MDIO, 13 MDC, 14 NINT/REFCLKO, 15 NRST, 16 TXEN, 17 TXD0, 18 TXD1, 19 VDD1A, 20 TX-, 21 TX+, 22 RX-, 23 RX+, 24 RBIAS, THERM GND

## LD39015XX
designator U?, comment LDO Fixed Voltage Regulator 150mA   The LD39015xx voltage regulator is ideal for regulating battery or solar power due to it's very low foreward voltage drop (~100mV at 150mA).Forward Voltage Dropout: 100mV at 150mA, 80mV at 100mA Input Voltage Range: 1.5V-5.5V Output Voltage Range: 0.8V-3.3V (depending on model)    Digikey: 1.8V - 497-6977-1-ND
footprint SOT23-5
pins: 1 IN, 2 GND, 3 EN, 5 OUT

## LED0603
designator LED?, comment LED0603 - 0603 Surface Mount Package    2mA: Green LED - Low Power (3.9mcd, 2ma, 1.7Vf) - Digikey: 475-2709-2-ND  Orange LED - Low Power (9.8mcd, 2ma, 1.8Vf) - Digikey: 475-1194-2-ND  Red LED - Low Power (5mcd, 2ma, 1.8Vf) - Digikey: 475-1195-2-ND  Yellow LED - Low Power (7mcd, 2ma, 1.8Vf) - Digikey: 475-1196-2-ND       5mA: Blue LED - Low Power (17mcd, 5ma, 2.9Vf) - Digikey: LNJ937W8CRACT-ND    0805 - 0805 Surface Mount Package    2mA: Red LED (8.8mcd, 2mA, 1.8Vf, Clear) - Low Power [Digikey: 475-2510-1-ND]  Green LED (5mcd, 2mA, 1.8Vf, Clear) - Low Power [Digikey: 475-2730-1-ND]  Yellow LED (11.3mcd, 2mA, 1.8Vf, Clear) - Low Power [Digikey: 475-2555-1-ND]       20mA: Red LED (104mcd, 20mA, Diffused) - LS R976 [Digikey: 475-1278-6-ND]  Red LED (12mcd, 20mA, 2.0Vf, Clear) - APT2012EC [Digikey: 754-1128-1-ND]  Green LED (15mcd, 20mA, 2.2Vf, Clear) - APT2012GC [Digikey: 754-1131-1-ND]  Orange LED (160mcd, 20mA, 2.1Vf, Clear) - APT2012SECK [Digikey: 754-1130-1-ND]     1206 - 1206 Surface Mount Package  Green LED (26mcd, 20mA, Diffused) - LG N971  [Digikey: 475-1407-6-ND]  Red LED (15mcd, 20mA, Diffused) - LH N974 [Digikey: 475-1416-6-ND]
footprint CHIPLED_0603
pins: A, C